# Altium integrated library Cypress PLD Ultra37000.IntLib: 166 symbols (part 9 of 12)
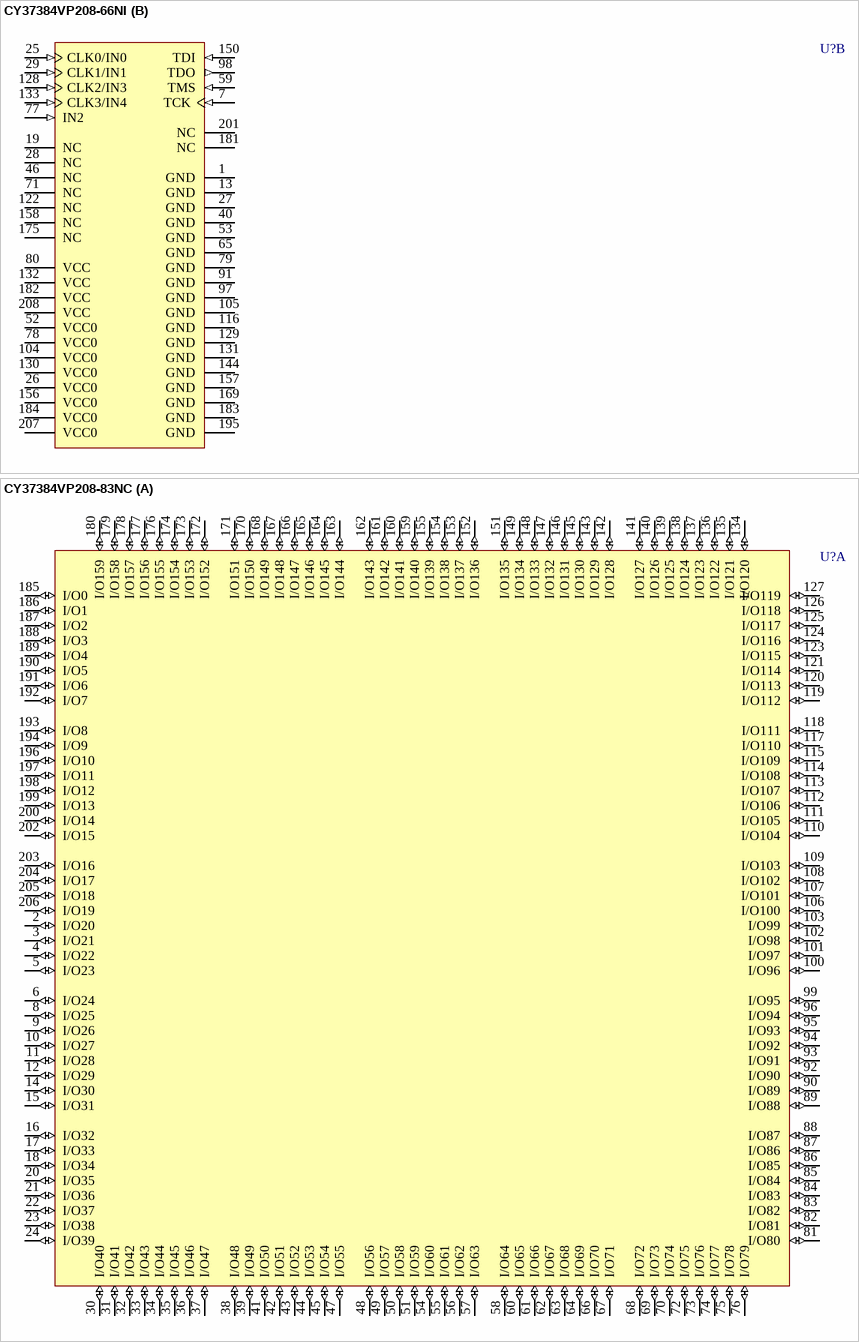
[diagram p98: symbols CY37384VP208-66NI to CY37384VP208-83NC]

## CY37384VP208-66NI
designator U?
Ultra37000 3.3V, ISR High-Performance CPLD; Published: 11-Dec-2002; LatestRevisionDate: 13-Apr-2006; LatestRevisionNote: IPC-7351 Footprint Added.; DatasheetVersion: 18-Apr-2001; PackageVersion: revB, Jun-1997; PackageReference: N208; Publisher: Altium Limited; PackageDescription: 208-Pin Plastic Shrink Quad Flat Pack 0.5 mm Pitch; ComponentLink1Description: Manufacturer Link; ComponentLink1URL: http://www.cypress.com/; ComponentLink2Description: Datasheet; ComponentLink2URL: http://www.cypress.com/portal/server.pt/gateway/PTARGS_0_2_1524_209_259_43/http%3B/sjapp20.mis.cypress.com%3B7001/publishedcontent/publish/design_resources/datasheets/contents/cy37032p_5.pdf
footprint N208_N (Shrink QFP, 208-Leads, Body 28x28mm, Pitch 0.5mm, IPC Medium Density)
footprint N208_L (Shrink QFP, 208-Leads, Body 28x28mm, Pitch 0.5mm, IPC High Density)
footprint N208_M (Shrink QFP, 208-Leads, Body 28x28mm, Pitch 0.5mm, IPC Low Density)
3D model CY37384VP208-N208 (208-Pin Plastic Shrink Quad Flat Pack 0.5 mm Pitch)
part A pins: 2 I/O20 (io), 3 I/O21 (io), 4 I/O22 (io), 5 I/O23 (io), 6 I/O24 (io), 8 I/O25 (io), 9 I/O26 (io), 10 I/O27 (io), 11 I/O28 (io), 12 I/O29 (io), 14 I/O30 (io), 15 I/O31 (io), 16 I/O32 (io), 17 I/O33 (io), 18 I/O34 (io), 20 I/O35 (io), 21 I/O36 (io), 22 I/O37 (io), 23 I/O38 (io), 24 I/O39 (io), 30 I/O40 (io), 31 I/O41 (io), 32 I/O42 (io), 33 I/O43 (io), 34 I/O44 (io), 35 I/O45 (io), 36 I/O46 (io), 37 I/O47 (io), 38 I/O48 (io), 39 I/O49 (io), 41 I/O50 (io), 42 I/O51 (io), 43 I/O52 (io), 44 I/O53 (io), 45 I/O54 (io), 47 I/O55 (io), 48 I/O56 (io), 49 I/O57 (io), 50 I/O58 (io), 51 I/O59 (io), 54 I/O60 (io), 55 I/O61 (io), 56 I/O62 (io), 57 I/O63 (io), 58 I/O64 (io), 60 I/O65 (io), 61 I/O66 (io), 62 I/O67 (io), 63 I/O68 (io), 64 I/O69 (io), 66 I/O70 (io), 67 I/O71 (io), 68 I/O72 (io), 69 I/O73 (io), 70 I/O74 (io), 72 I/O75 (io), 73 I/O76 (io), 74 I/O77 (io), 75 I/O78 (io), 76 I/O79 (io), 81 I/O80 (io), 82 I/O81 (io), 83 I/O82 (io), 84 I/O83 (io), 85 I/O84 (io), 86 I/O85 (io), 87 I/O86 (io), 88 I/O87 (io), 89 I/O88 (io), 90 I/O89 (io), 92 I/O90 (io), 93 I/O91 (io), 94 I/O92 (io), 95 I/O93 (io), 96 I/O94 (io), 99 I/O95 (io), 100 I/O96 (io), 101 I/O97 (io), 102 I/O98 (io), 103 I/O99 (io), 106 I/O100 (io), 107 I/O101 (io), 108 I/O102 (io), 109 I/O103 (io), 110 I/O104 (io), 111 I/O105 (io), 112 I/O106 (io), 113 I/O107 (io), 114 I/O108 (io), 115 I/O109 (io), 117 I/O110 (io), 118 I/O111 (io), 119 I/O112 (io), 120 I/O113 (io), 121 I/O114 (io), 123 I/O115 (io), 124 I/O116 (io), 125 I/O117 (io), 126 I/O118 (io), 127 I/O119 (io), 134 I/O120 (io), 135 I/O121 (io), 136 I/O122 (io), 137 I/O123 (io), 138 I/O124 (io), 139 I/O125 (io), 140 I/O126 (io), 141 I/O127 (io), 142 I/O128 (io), 143 I/O129 (io), 145 I/O130 (io), 146 I/O131 (io), 147 I/O132 (io), 148 I/O133 (io), 149 I/O134 (io), 151 I/O135 (io), 152 I/O136 (io), 153 I/O137 (io), 154 I/O138 (io), 155 I/O139 (io), 159 I/O140 (io), 160 I/O141 (io), 161 I/O142 (io), 162 I/O143 (io), 163 I/O144 (io), 164 I/O145 (io), 165 I/O146 (io), 166 I/O147 (io), 167 I/O148 (io), 168 I/O149 (io), 170 I/O150 (io), 171 I/O151 (io), 172 I/O152 (io), 173 I/O153 (io), 174 I/O154 (io), 176 I/O155 (io), 177 I/O156 (io), 178 I/O157 (io), 179 I/O158 (io), 180 I/O159 (io), 185 I/O0 (io), 186 I/O1 (io), 187 I/O2 (io), 188 I/O3 (io), 189 I/O4 (io), 190 I/O5 (io), 191 I/O6 (io), 192 I/O7 (io), 193 I/O8 (io), 194 I/O9 (io), 196 I/O10 (io), 197 I/O11 (io), 198 I/O12 (io), 199 I/O13 (io), 200 I/O14 (io), 202 I/O15 (io), 203 I/O16 (io), 204 I/O17 (io), 205 I/O18 (io), 206 I/O19 (io)
part B pins: 1 GND (power), 7 TCK (in), 13 GND (power), 19 NC, 25 CLK0/IN0 (in), 26 VCC0 (power), 27 GND (power), 28 NC, 29 CLK1/IN1 (in), 40 GND (power), 46 NC, 52 VCC0 (power), 53 GND (power), 59 TMS (in), 65 GND (power), 71 NC, 77 IN2 (in), 78 VCC0 (power), 79 GND (power), 80 VCC (power), 91 GND (power), 97 GND (power), 98 TDO (out), 104 VCC0 (power), 105 GND (power), 116 GND (power), 122 NC, 128 CLK2/IN3 (in), 129 GND (power), 130 VCC0 (power), 131 GND (power), 132 VCC (power), 133 CLK3/IN4 (in), 144 GND (power), 150 TDI (in), 156 VCC0 (power), 157 GND (power), 158 NC, 169 GND (power), 175 NC, 181 NC, 182 VCC (power), 183 GND (power), 184 VCC0 (power), 195 GND (power), 201 NC, 207 VCC0 (power), 208 VCC (power)

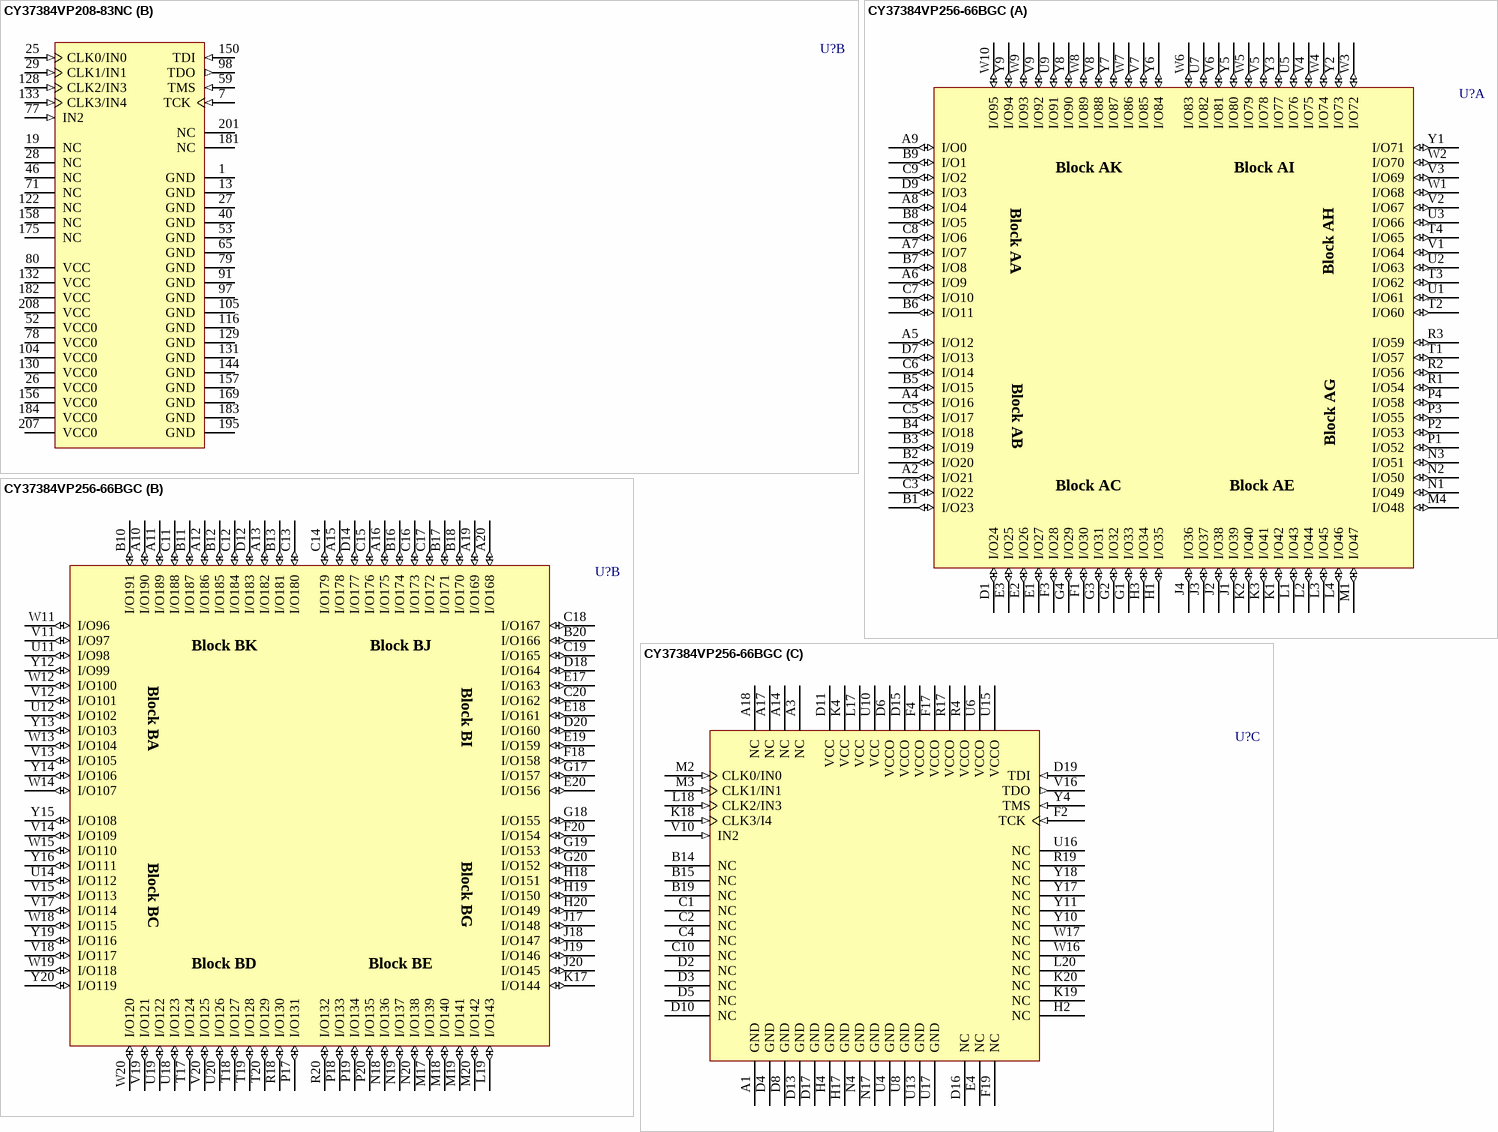
[diagram p52: symbols CY37384VP208-83NC to CY37384VP256-66BGC]

## CY37384VP208-83NC
designator U?
Ultra37000 3.3V, ISR High-Performance CPLD; Published: 11-Dec-2002; LatestRevisionDate: 13-Apr-2006; LatestRevisionNote: IPC-7351 Footprint Added.; DatasheetVersion: 18-Apr-2001; PackageVersion: revB, Jun-1997; PackageReference: N208; Publisher: Altium Limited; PackageDescription: 208-Pin Plastic Shrink Quad Flat Pack 0.5 mm Pitch; ComponentLink1Description: Manufacturer Link; ComponentLink1URL: http://www.cypress.com/; ComponentLink2Description: Datasheet; ComponentLink2URL: http://www.cypress.com/portal/server.pt/gateway/PTARGS_0_2_1524_209_259_43/http%3B/sjapp20.mis.cypress.com%3B7001/publishedcontent/publish/design_resources/datasheets/contents/cy37032p_5.pdf
footprint N208_N (Shrink QFP, 208-Leads, Body 28x28mm, Pitch 0.5mm, IPC Medium Density)
footprint N208_L (Shrink QFP, 208-Leads, Body 28x28mm, Pitch 0.5mm, IPC High Density)
footprint N208_M (Shrink QFP, 208-Leads, Body 28x28mm, Pitch 0.5mm, IPC Low Density)
3D model CY37384VP208-N208 (208-Pin Plastic Shrink Quad Flat Pack 0.5 mm Pitch)
part A pins: 2 I/O20 (io), 3 I/O21 (io), 4 I/O22 (io), 5 I/O23 (io), 6 I/O24 (io), 8 I/O25 (io), 9 I/O26 (io), 10 I/O27 (io), 11 I/O28 (io), 12 I/O29 (io), 14 I/O30 (io), 15 I/O31 (io), 16 I/O32 (io), 17 I/O33 (io), 18 I/O34 (io), 20 I/O35 (io), 21 I/O36 (io), 22 I/O37 (io), 23 I/O38 (io), 24 I/O39 (io), 30 I/O40 (io), 31 I/O41 (io), 32 I/O42 (io), 33 I/O43 (io), 34 I/O44 (io), 35 I/O45 (io), 36 I/O46 (io), 37 I/O47 (io), 38 I/O48 (io), 39 I/O49 (io), 41 I/O50 (io), 42 I/O51 (io), 43 I/O52 (io), 44 I/O53 (io), 45 I/O54 (io), 47 I/O55 (io), 48 I/O56 (io), 49 I/O57 (io), 50 I/O58 (io), 51 I/O59 (io), 54 I/O60 (io), 55 I/O61 (io), 56 I/O62 (io), 57 I/O63 (io), 58 I/O64 (io), 60 I/O65 (io), 61 I/O66 (io), 62 I/O67 (io), 63 I/O68 (io), 64 I/O69 (io), 66 I/O70 (io), 67 I/O71 (io), 68 I/O72 (io), 69 I/O73 (io), 70 I/O74 (io), 72 I/O75 (io), 73 I/O76 (io), 74 I/O77 (io), 75 I/O78 (io), 76 I/O79 (io), 81 I/O80 (io), 82 I/O81 (io), 83 I/O82 (io), 84 I/O83 (io), 85 I/O84 (io), 86 I/O85 (io), 87 I/O86 (io), 88 I/O87 (io), 89 I/O88 (io), 90 I/O89 (io), 92 I/O90 (io), 93 I/O91 (io), 94 I/O92 (io), 95 I/O93 (io), 96 I/O94 (io), 99 I/O95 (io), 100 I/O96 (io), 101 I/O97 (io), 102 I/O98 (io), 103 I/O99 (io), 106 I/O100 (io), 107 I/O101 (io), 108 I/O102 (io), 109 I/O103 (io), 110 I/O104 (io), 111 I/O105 (io), 112 I/O106 (io), 113 I/O107 (io), 114 I/O108 (io), 115 I/O109 (io), 117 I/O110 (io), 118 I/O111 (io), 119 I/O112 (io), 120 I/O113 (io), 121 I/O114 (io), 123 I/O115 (io), 124 I/O116 (io), 125 I/O117 (io), 126 I/O118 (io), 127 I/O119 (io), 134 I/O120 (io), 135 I/O121 (io), 136 I/O122 (io), 137 I/O123 (io), 138 I/O124 (io), 139 I/O125 (io), 140 I/O126 (io), 141 I/O127 (io), 142 I/O128 (io), 143 I/O129 (io), 145 I/O130 (io), 146 I/O131 (io), 147 I/O132 (io), 148 I/O133 (io), 149 I/O134 (io), 151 I/O135 (io), 152 I/O136 (io), 153 I/O137 (io), 154 I/O138 (io), 155 I/O139 (io), 159 I/O140 (io), 160 I/O141 (io), 161 I/O142 (io), 162 I/O143 (io), 163 I/O144 (io), 164 I/O145 (io), 165 I/O146 (io), 166 I/O147 (io), 167 I/O148 (io), 168 I/O149 (io), 170 I/O150 (io), 171 I/O151 (io), 172 I/O152 (io), 173 I/O153 (io), 174 I/O154 (io), 176 I/O155 (io), 177 I/O156 (io), 178 I/O157 (io), 179 I/O158 (io), 180 I/O159 (io), 185 I/O0 (io), 186 I/O1 (io), 187 I/O2 (io), 188 I/O3 (io), 189 I/O4 (io), 190 I/O5 (io), 191 I/O6 (io), 192 I/O7 (io), 193 I/O8 (io), 194 I/O9 (io), 196 I/O10 (io), 197 I/O11 (io), 198 I/O12 (io), 199 I/O13 (io), 200 I/O14 (io), 202 I/O15 (io), 203 I/O16 (io), 204 I/O17 (io), 205 I/O18 (io), 206 I/O19 (io)
part B pins: 1 GND (power), 7 TCK (in), 13 GND (power), 19 NC, 25 CLK0/IN0 (in), 26 VCC0 (power), 27 GND (power), 28 NC, 29 CLK1/IN1 (in), 40 GND (power), 46 NC, 52 VCC0 (power), 53 GND (power), 59 TMS (in), 65 GND (power), 71 NC, 77 IN2 (in), 78 VCC0 (power), 79 GND (power), 80 VCC (power), 91 GND (power), 97 GND (power), 98 TDO (out), 104 VCC0 (power), 105 GND (power), 116 GND (power), 122 NC, 128 CLK2/IN3 (in), 129 GND (power), 130 VCC0 (power), 131 GND (power), 132 VCC (power), 133 CLK3/IN4 (in), 144 GND (power), 150 TDI (in), 156 VCC0 (power), 157 GND (power), 158 NC, 169 GND (power), 175 NC, 181 NC, 182 VCC (power), 183 GND (power), 184 VCC0 (power), 195 GND (power), 201 NC, 207 VCC0 (power), 208 VCC (power)

## CY37384VP256-66BGC
designator U?
Ultra37000 3.3V, ISR High-Performance CPLD; Published: 11-Dec-2002; LatestRevisionDate: 13-Apr-2006; LatestRevisionNote: IPC-7351 Footprint Added.; DatasheetVersion: 18-Apr-2001; PackageVersion: Mar-2001; PackageReference: BG256; Publisher: Altium Limited; PackageDescription: 292-Ball Ball Grid Array 1.27 mm Pitch; ComponentLink1Description: Manufacturer Link; ComponentLink1URL: http://www.cypress.com/; ComponentLink2Description: Datasheet; ComponentLink2URL: http://www.cypress.com/portal/server.pt/gateway/PTARGS_0_2_1524_209_259_43/http%3B/sjapp20.mis.cypress.com%3B7001/publishedcontent/publish/design_resources/datasheets/contents/cy37032p_5.pdf
footprint BG256 (BGA, 292-Leads, Body 27x27mm, Pitch 1.27mm)
3D model CY37384VP256-BG256 (292-Ball Ball Grid Array 1.27 mm Pitch)
part A pins: A2 I/O21 (io), A4 I/O16 (io), A5 I/O12 (io), A6 I/O9 (io), A7 I/O7 (io), A8 I/O4 (io), A9 I/O0 (io), B1 I/O23 (io), B2 I/O20 (io), B3 I/O19 (io), B4 I/O18 (io), B5 I/O15 (io), B6 I/O11 (io), B7 I/O8 (io), B8 I/O5 (io), B9 I/O1 (io), C3 I/O22 (io), C5 I/O17 (io), C6 I/O14 (io), C7 I/O10 (io), C8 I/O6 (io), C9 I/O2 (io), D1 I/O24 (io), D7 I/O13 (io), D9 I/O3 (io), E1 I/O27 (io), E2 I/O26 (io), E3 I/O25 (io), F1 I/O30 (io), F3 I/O28 (io), G1 I/O33 (io), G2 I/O32 (io), G3 I/O31 (io), G4 I/O29 (io), H1 I/O35 (io), H3 I/O34 (io), J1 I/O39 (io), J2 I/O38 (io), J3 I/O37 (io), J4 I/O36 (io), K1 I/O42 (io), K2 I/O40 (io), K3 I/O41 (io), L1 I/O43 (io), L2 I/O44 (io), L3 I/O45 (io), L4 I/O46 (io), M1 I/O47 (io), M4 I/O48 (io), N1 I/O49 (io), N2 I/O50 (io), N3 I/O51 (io), P1 I/O52 (io), P2 I/O53 (io), P3 I/O55 (io), P4 I/O58 (io), R1 I/O54 (io), R2 I/O56 (io), R3 I/O59 (io), T1 I/O57 (io), T2 I/O60 (io), T3 I/O62 (io), T4 I/O65 (io), U1 I/O61 (io), U2 I/O63 (io), U3 I/O66 (io), U5 I/O76 (io), U7 I/O82 (io), U9 I/O91 (io), V1 I/O64 (io), V2 I/O67 (io), V3 I/O69 (io), V4 I/O75 (io), V5 I/O78 (io), V6 I/O81 (io), V7 I/O85 (io), V8 I/O88 (io), V9 I/O92 (io), W1 I/O68 (io), W2 I/O70 (io), W3 I/O72 (io), W4 I/O74 (io), W5 I/O79 (io), W6 I/O83 (io), W7 I/O86 (io), W8 I/O89 (io), W9 I/O93 (io), W10 I/O95 (io), Y1 I/O71 (io), Y2 I/O73 (io), Y3 I/O77 (io), Y5 I/O80 (io), Y6 I/O84 (io), Y7 I/O87 (io), Y8 I/O90 (io), Y9 I/O94 (io)
part B pins: A10 I/O190 (io), A11 I/O189 (io), A12 I/O186 (io), A13 I/O182 (io), A15 I/O178 (io), A16 I/O175 (io), A19 I/O169 (io), A20 I/O168 (io), B10 I/O191 (io), B11 I/O187 (io), B12 I/O185 (io), B13 I/O181 (io), B16 I/O174 (io), B17 I/O171 (io), B18 I/O170 (io), B20 I/O166 (io), C11 I/O188 (io), C12 I/O184 (io), C13 I/O180 (io), C14 I/O179 (io), C15 I/O176 (io), C16 I/O173 (io), C17 I/O172 (io), C18 I/O167 (io), C19 I/O165 (io), C20 I/O162 (io), D12 I/O183 (io), D14 I/O177 (io), D18 I/O164 (io), D20 I/O160 (io), E17 I/O163 (io), E18 I/O161 (io), E19 I/O159 (io), E20 I/O156 (io), F18 I/O158 (io), F20 I/O154 (io), G17 I/O157 (io), G18 I/O155 (io), G19 I/O153 (io), G20 I/O152 (io), H18 I/O151 (io), H19 I/O150 (io), H20 I/O149 (io), J17 I/O148 (io), J18 I/O147 (io), J19 I/O146 (io), J20 I/O145 (io), K17 I/O144 (io), L19 I/O143 (io), M17 I/O139 (io), M18 I/O140 (io), M19 I/O141 (io), M20 I/O142 (io), N18 I/O136 (io), N19 I/O137 (io), N20 I/O138 (io), P17 I/O131 (io), P18 I/O133 (io), P19 I/O134 (io), P20 I/O135 (io), R18 I/O130 (io), R20 I/O132 (io), T17 I/O124 (io), T18 I/O127 (io), T19 I/O128 (io), T20 I/O129 (io), U11 I/O98 (io), U12 I/O102 (io), U14 I/O112 (io), U18 I/O123 (io), U19 I/O122 (io), U20 I/O126 (io), V11 I/O97 (io), V12 I/O101 (io), V13 I/O105 (io), V14 I/O109 (io), V15 I/O113 (io), V17 I/O114 (io), V18 I/O117 (io), V19 I/O121 (io), V20 I/O125 (io), W11 I/O96 (io), W12 I/O100 (io), W13 I/O104 (io), W14 I/O107 (io), W15 I/O110 (io), W18 I/O115 (io), W19 I/O118 (io), W20 I/O120 (io), Y12 I/O99 (io), Y13 I/O103 (io), Y14 I/O106 (io), Y15 I/O108 (io), Y16 I/O111 (io), Y19 I/O116 (io), Y20 I/O119 (io)
part C pins: A1 GND (power), A3 NC, A14 NC, A17 NC, A18 NC, B14 NC, B15 NC, B19 NC, C1 NC, C2 NC, C4 NC, C10 NC, D2 NC, D3 NC, D4 GND (power), D5 NC, D6 VCCO (power), D8 GND (power), D10 NC, D11 VCC (power), D13 GND (power), D15 VCCO (power), D16 NC, D17 GND (power), D19 TDI (in), E4 NC, F2 TCK (in), F4 VCCO (power), F17 VCCO (power), F19 NC, H2 NC, H4 GND (power), H17 GND (power), K4 VCC (power), K18 CLK3/I4 (in), K19 NC, K20 NC, L17 VCC (power), L18 CLK2/IN3 (in), L20 NC, M2 CLK0/IN0 (in), M3 CLK1/IN1 (in), N4 GND (power), N17 GND (power), R4 VCCO (power), R17 VCCO (power), R19 NC, U4 GND (power), U6 VCCO (power), U8 GND (power), U10 VCC (power), U13 GND (power), U15 VCCO (power), U16 NC, U17 GND (power), V10 IN2 (in), V16 TDO (out), W16 NC, W17 NC, Y4 TMS (in), Y10 NC, Y11 NC, Y17 NC, Y18 NC
part A text: Block AK; Block AI; Block AA; Block AH; Block AB; Block AG; Block AC; Block AE
part B text: Block BK; Block BJ; Block BA; Block BI; Block BG; Block BC; Block BD; Block BE

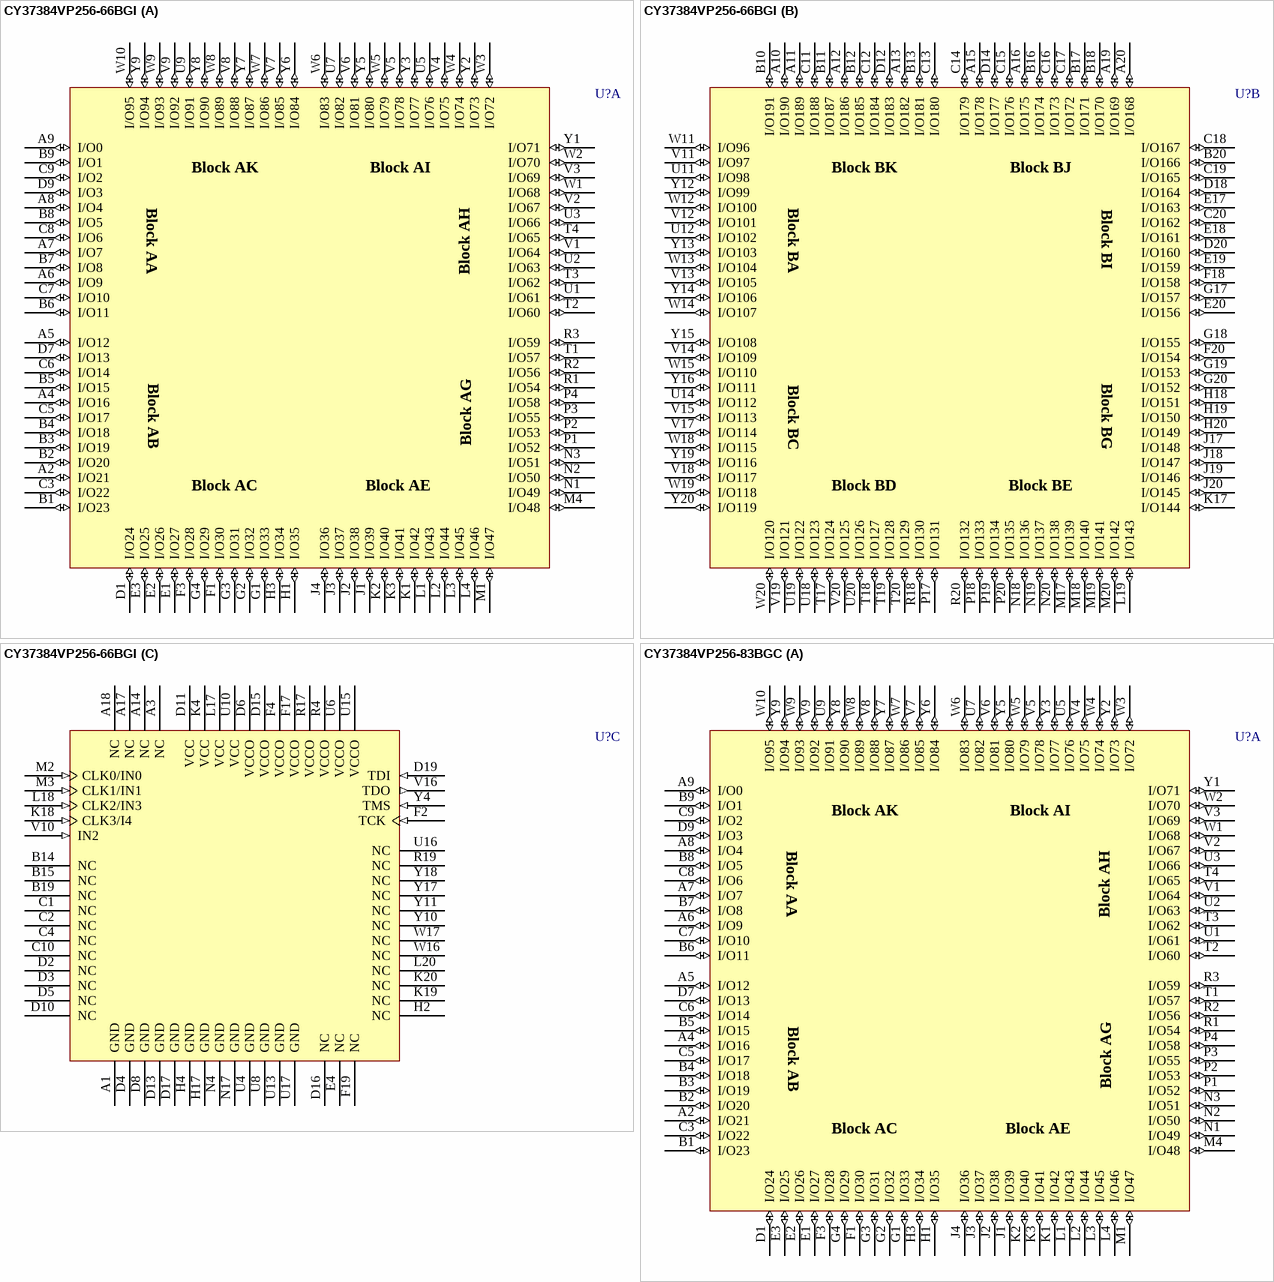
[diagram p53: symbols CY37384VP256-66BGI to CY37384VP256-83BGC]

## CY37384VP256-66BGI
designator U?
Ultra37000 3.3V, ISR High-Performance CPLD; Published: 11-Dec-2002; LatestRevisionDate: 13-Apr-2006; LatestRevisionNote: IPC-7351 Footprint Added.; DatasheetVersion: 18-Apr-2001; PackageVersion: Mar-2001; PackageReference: BG256; Publisher: Altium Limited; PackageDescription: 292-Ball Ball Grid Array 1.27 mm Pitch; ComponentLink1Description: Manufacturer Link; ComponentLink1URL: http://www.cypress.com/; ComponentLink2Description: Datasheet; ComponentLink2URL: http://www.cypress.com/portal/server.pt/gateway/PTARGS_0_2_1524_209_259_43/http%3B/sjapp20.mis.cypress.com%3B7001/publishedcontent/publish/design_resources/datasheets/contents/cy37032p_5.pdf
footprint BG256 (BGA, 292-Leads, Body 27x27mm, Pitch 1.27mm)
3D model CY37384VP256-BG256 (292-Ball Ball Grid Array 1.27 mm Pitch)
part A pins: A2 I/O21 (io), A4 I/O16 (io), A5 I/O12 (io), A6 I/O9 (io), A7 I/O7 (io), A8 I/O4 (io), A9 I/O0 (io), B1 I/O23 (io), B2 I/O20 (io), B3 I/O19 (io), B4 I/O18 (io), B5 I/O15 (io), B6 I/O11 (io), B7 I/O8 (io), B8 I/O5 (io), B9 I/O1 (io), C3 I/O22 (io), C5 I/O17 (io), C6 I/O14 (io), C7 I/O10 (io), C8 I/O6 (io), C9 I/O2 (io), D1 I/O24 (io), D7 I/O13 (io), D9 I/O3 (io), E1 I/O27 (io), E2 I/O26 (io), E3 I/O25 (io), F1 I/O30 (io), F3 I/O28 (io), G1 I/O33 (io), G2 I/O32 (io), G3 I/O31 (io), G4 I/O29 (io), H1 I/O35 (io), H3 I/O34 (io), J1 I/O39 (io), J2 I/O38 (io), J3 I/O37 (io), J4 I/O36 (io), K1 I/O42 (io), K2 I/O40 (io), K3 I/O41 (io), L1 I/O43 (io), L2 I/O44 (io), L3 I/O45 (io), L4 I/O46 (io), M1 I/O47 (io), M4 I/O48 (io), N1 I/O49 (io), N2 I/O50 (io), N3 I/O51 (io), P1 I/O52 (io), P2 I/O53 (io), P3 I/O55 (io), P4 I/O58 (io), R1 I/O54 (io), R2 I/O56 (io), R3 I/O59 (io), T1 I/O57 (io), T2 I/O60 (io), T3 I/O62 (io), T4 I/O65 (io), U1 I/O61 (io), U2 I/O63 (io), U3 I/O66 (io), U5 I/O76 (io), U7 I/O82 (io), U9 I/O91 (io), V1 I/O64 (io), V2 I/O67 (io), V3 I/O69 (io), V4 I/O75 (io), V5 I/O78 (io), V6 I/O81 (io), V7 I/O85 (io), V8 I/O88 (io), V9 I/O92 (io), W1 I/O68 (io), W2 I/O70 (io), W3 I/O72 (io), W4 I/O74 (io), W5 I/O79 (io), W6 I/O83 (io), W7 I/O86 (io), W8 I/O89 (io), W9 I/O93 (io), W10 I/O95 (io), Y1 I/O71 (io), Y2 I/O73 (io), Y3 I/O77 (io), Y5 I/O80 (io), Y6 I/O84 (io), Y7 I/O87 (io), Y8 I/O90 (io), Y9 I/O94 (io)
part B pins: A10 I/O190 (io), A11 I/O189 (io), A12 I/O186 (io), A13 I/O182 (io), A15 I/O178 (io), A16 I/O175 (io), A19 I/O169 (io), A20 I/O168 (io), B10 I/O191 (io), B11 I/O187 (io), B12 I/O185 (io), B13 I/O181 (io), B16 I/O174 (io), B17 I/O171 (io), B18 I/O170 (io), B20 I/O166 (io), C11 I/O188 (io), C12 I/O184 (io), C13 I/O180 (io), C14 I/O179 (io), C15 I/O176 (io), C16 I/O173 (io), C17 I/O172 (io), C18 I/O167 (io), C19 I/O165 (io), C20 I/O162 (io), D12 I/O183 (io), D14 I/O177 (io), D18 I/O164 (io), D20 I/O160 (io), E17 I/O163 (io), E18 I/O161 (io), E19 I/O159 (io), E20 I/O156 (io), F18 I/O158 (io), F20 I/O154 (io), G17 I/O157 (io), G18 I/O155 (io), G19 I/O153 (io), G20 I/O152 (io), H18 I/O151 (io), H19 I/O150 (io), H20 I/O149 (io), J17 I/O148 (io), J18 I/O147 (io), J19 I/O146 (io), J20 I/O145 (io), K17 I/O144 (io), L19 I/O143 (io), M17 I/O139 (io), M18 I/O140 (io), M19 I/O141 (io), M20 I/O142 (io), N18 I/O136 (io), N19 I/O137 (io), N20 I/O138 (io), P17 I/O131 (io), P18 I/O133 (io), P19 I/O134 (io), P20 I/O135 (io), R18 I/O130 (io), R20 I/O132 (io), T17 I/O124 (io), T18 I/O127 (io), T19 I/O128 (io), T20 I/O129 (io), U11 I/O98 (io), U12 I/O102 (io), U14 I/O112 (io), U18 I/O123 (io), U19 I/O122 (io), U20 I/O126 (io), V11 I/O97 (io), V12 I/O101 (io), V13 I/O105 (io), V14 I/O109 (io), V15 I/O113 (io), V17 I/O114 (io), V18 I/O117 (io), V19 I/O121 (io), V20 I/O125 (io), W11 I/O96 (io), W12 I/O100 (io), W13 I/O104 (io), W14 I/O107 (io), W15 I/O110 (io), W18 I/O115 (io), W19 I/O118 (io), W20 I/O120 (io), Y12 I/O99 (io), Y13 I/O103 (io), Y14 I/O106 (io), Y15 I/O108 (io), Y16 I/O111 (io), Y19 I/O116 (io), Y20 I/O119 (io)
part C pins: A1 GND (power), A3 NC, A14 NC, A17 NC, A18 NC, B14 NC, B15 NC, B19 NC, C1 NC, C2 NC, C4 NC, C10 NC, D2 NC, D3 NC, D4 GND (power), D5 NC, D6 VCCO (power), D8 GND (power), D10 NC, D11 VCC (power), D13 GND (power), D15 VCCO (power), D16 NC, D17 GND (power), D19 TDI (in), E4 NC, F2 TCK (in), F4 VCCO (power), F17 VCCO (power), F19 NC, H2 NC, H4 GND (power), H17 GND (power), K4 VCC (power), K18 CLK3/I4 (in), K19 NC, K20 NC, L17 VCC (power), L18 CLK2/IN3 (in), L20 NC, M2 CLK0/IN0 (in), M3 CLK1/IN1 (in), N4 GND (power), N17 GND (power), R4 VCCO (power), R17 VCCO (power), R19 NC, U4 GND (power), U6 VCCO (power), U8 GND (power), U10 VCC (power), U13 GND (power), U15 VCCO (power), U16 NC, U17 GND (power), V10 IN2 (in), V16 TDO (out), W16 NC, W17 NC, Y4 TMS (in), Y10 NC, Y11 NC, Y17 NC, Y18 NC
part A text: Block AK; Block AI; Block AA; Block AH; Block AB; Block AG; Block AC; Block AE
part B text: Block BK; Block BJ; Block BA; Block BI; Block BG; Block BC; Block BD; Block BE

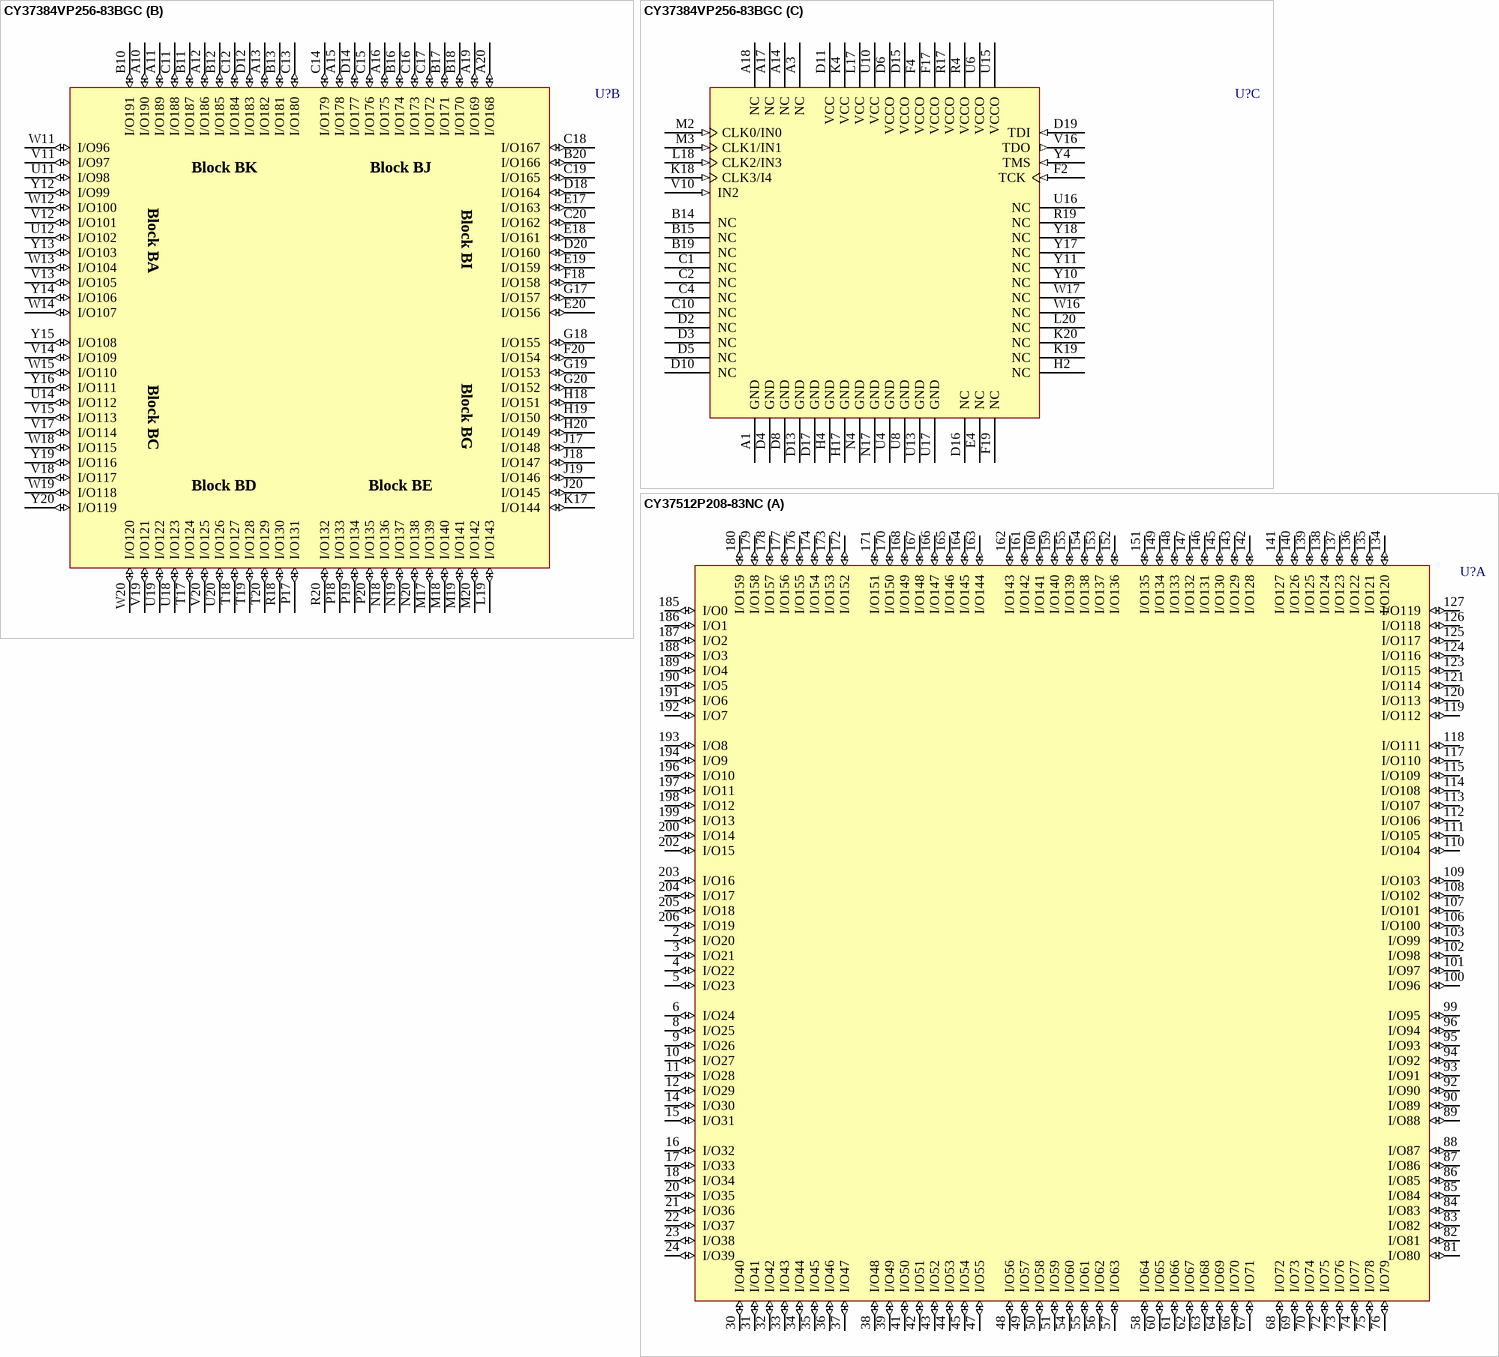
[diagram p54: symbols CY37384VP256-83BGC to CY37512P208-83NC]

## CY37384VP256-83BGC
designator U?
Ultra37000 3.3V, ISR High-Performance CPLD; Published: 11-Dec-2002; LatestRevisionDate: 13-Apr-2006; LatestRevisionNote: IPC-7351 Footprint Added.; DatasheetVersion: 18-Apr-2001; PackageVersion: Mar-2001; PackageReference: BG256; Publisher: Altium Limited; PackageDescription: 292-Ball Ball Grid Array 1.27 mm Pitch; ComponentLink1Description: Manufacturer Link; ComponentLink1URL: http://www.cypress.com/; ComponentLink2Description: Datasheet; ComponentLink2URL: http://www.cypress.com/portal/server.pt/gateway/PTARGS_0_2_1524_209_259_43/http%3B/sjapp20.mis.cypress.com%3B7001/publishedcontent/publish/design_resources/datasheets/contents/cy37032p_5.pdf
footprint BG256 (BGA, 292-Leads, Body 27x27mm, Pitch 1.27mm)
3D model CY37384VP256-BG256 (292-Ball Ball Grid Array 1.27 mm Pitch)
part A pins: A2 I/O21 (io), A4 I/O16 (io), A5 I/O12 (io), A6 I/O9 (io), A7 I/O7 (io), A8 I/O4 (io), A9 I/O0 (io), B1 I/O23 (io), B2 I/O20 (io), B3 I/O19 (io), B4 I/O18 (io), B5 I/O15 (io), B6 I/O11 (io), B7 I/O8 (io), B8 I/O5 (io), B9 I/O1 (io), C3 I/O22 (io), C5 I/O17 (io), C6 I/O14 (io), C7 I/O10 (io), C8 I/O6 (io), C9 I/O2 (io), D1 I/O24 (io), D7 I/O13 (io), D9 I/O3 (io), E1 I/O27 (io), E2 I/O26 (io), E3 I/O25 (io), F1 I/O30 (io), F3 I/O28 (io), G1 I/O33 (io), G2 I/O32 (io), G3 I/O31 (io), G4 I/O29 (io), H1 I/O35 (io), H3 I/O34 (io), J1 I/O39 (io), J2 I/O38 (io), J3 I/O37 (io), J4 I/O36 (io), K1 I/O42 (io), K2 I/O40 (io), K3 I/O41 (io), L1 I/O43 (io), L2 I/O44 (io), L3 I/O45 (io), L4 I/O46 (io), M1 I/O47 (io), M4 I/O48 (io), N1 I/O49 (io), N2 I/O50 (io), N3 I/O51 (io), P1 I/O52 (io), P2 I/O53 (io), P3 I/O55 (io), P4 I/O58 (io), R1 I/O54 (io), R2 I/O56 (io), R3 I/O59 (io), T1 I/O57 (io), T2 I/O60 (io), T3 I/O62 (io), T4 I/O65 (io), U1 I/O61 (io), U2 I/O63 (io), U3 I/O66 (io), U5 I/O76 (io), U7 I/O82 (io), U9 I/O91 (io), V1 I/O64 (io), V2 I/O67 (io), V3 I/O69 (io), V4 I/O75 (io), V5 I/O78 (io), V6 I/O81 (io), V7 I/O85 (io), V8 I/O88 (io), V9 I/O92 (io), W1 I/O68 (io), W2 I/O70 (io), W3 I/O72 (io), W4 I/O74 (io), W5 I/O79 (io), W6 I/O83 (io), W7 I/O86 (io), W8 I/O89 (io), W9 I/O93 (io), W10 I/O95 (io), Y1 I/O71 (io), Y2 I/O73 (io), Y3 I/O77 (io), Y5 I/O80 (io), Y6 I/O84 (io), Y7 I/O87 (io), Y8 I/O90 (io), Y9 I/O94 (io)
part B pins: A10 I/O190 (io), A11 I/O189 (io), A12 I/O186 (io), A13 I/O182 (io), A15 I/O178 (io), A16 I/O175 (io), A19 I/O169 (io), A20 I/O168 (io), B10 I/O191 (io), B11 I/O187 (io), B12 I/O185 (io), B13 I/O181 (io), B16 I/O174 (io), B17 I/O171 (io), B18 I/O170 (io), B20 I/O166 (io), C11 I/O188 (io), C12 I/O184 (io), C13 I/O180 (io), C14 I/O179 (io), C15 I/O176 (io), C16 I/O173 (io), C17 I/O172 (io), C18 I/O167 (io), C19 I/O165 (io), C20 I/O162 (io), D12 I/O183 (io), D14 I/O177 (io), D18 I/O164 (io), D20 I/O160 (io), E17 I/O163 (io), E18 I/O161 (io), E19 I/O159 (io), E20 I/O156 (io), F18 I/O158 (io), F20 I/O154 (io), G17 I/O157 (io), G18 I/O155 (io), G19 I/O153 (io), G20 I/O152 (io), H18 I/O151 (io), H19 I/O150 (io), H20 I/O149 (io), J17 I/O148 (io), J18 I/O147 (io), J19 I/O146 (io), J20 I/O145 (io), K17 I/O144 (io), L19 I/O143 (io), M17 I/O139 (io), M18 I/O140 (io), M19 I/O141 (io), M20 I/O142 (io), N18 I/O136 (io), N19 I/O137 (io), N20 I/O138 (io), P17 I/O131 (io), P18 I/O133 (io), P19 I/O134 (io), P20 I/O135 (io), R18 I/O130 (io), R20 I/O132 (io), T17 I/O124 (io), T18 I/O127 (io), T19 I/O128 (io), T20 I/O129 (io), U11 I/O98 (io), U12 I/O102 (io), U14 I/O112 (io), U18 I/O123 (io), U19 I/O122 (io), U20 I/O126 (io), V11 I/O97 (io), V12 I/O101 (io), V13 I/O105 (io), V14 I/O109 (io), V15 I/O113 (io), V17 I/O114 (io), V18 I/O117 (io), V19 I/O121 (io), V20 I/O125 (io), W11 I/O96 (io), W12 I/O100 (io), W13 I/O104 (io), W14 I/O107 (io), W15 I/O110 (io), W18 I/O115 (io), W19 I/O118 (io), W20 I/O120 (io), Y12 I/O99 (io), Y13 I/O103 (io), Y14 I/O106 (io), Y15 I/O108 (io), Y16 I/O111 (io), Y19 I/O116 (io), Y20 I/O119 (io)
part C pins: A1 GND (power), A3 NC, A14 NC, A17 NC, A18 NC, B14 NC, B15 NC, B19 NC, C1 NC, C2 NC, C4 NC, C10 NC, D2 NC, D3 NC, D4 GND (power), D5 NC, D6 VCCO (power), D8 GND (power), D10 NC, D11 VCC (power), D13 GND (power), D15 VCCO (power), D16 NC, D17 GND (power), D19 TDI (in), E4 NC, F2 TCK (in), F4 VCCO (power), F17 VCCO (power), F19 NC, H2 NC, H4 GND (power), H17 GND (power), K4 VCC (power), K18 CLK3/I4 (in), K19 NC, K20 NC, L17 VCC (power), L18 CLK2/IN3 (in), L20 NC, M2 CLK0/IN0 (in), M3 CLK1/IN1 (in), N4 GND (power), N17 GND (power), R4 VCCO (power), R17 VCCO (power), R19 NC, U4 GND (power), U6 VCCO (power), U8 GND (power), U10 VCC (power), U13 GND (power), U15 VCCO (power), U16 NC, U17 GND (power), V10 IN2 (in), V16 TDO (out), W16 NC, W17 NC, Y4 TMS (in), Y10 NC, Y11 NC, Y17 NC, Y18 NC
part A text: Block AK; Block AI; Block AA; Block AH; Block AB; Block AG; Block AC; Block AE
part B text: Block BK; Block BJ; Block BA; Block BI; Block BG; Block BC; Block BD; Block BE

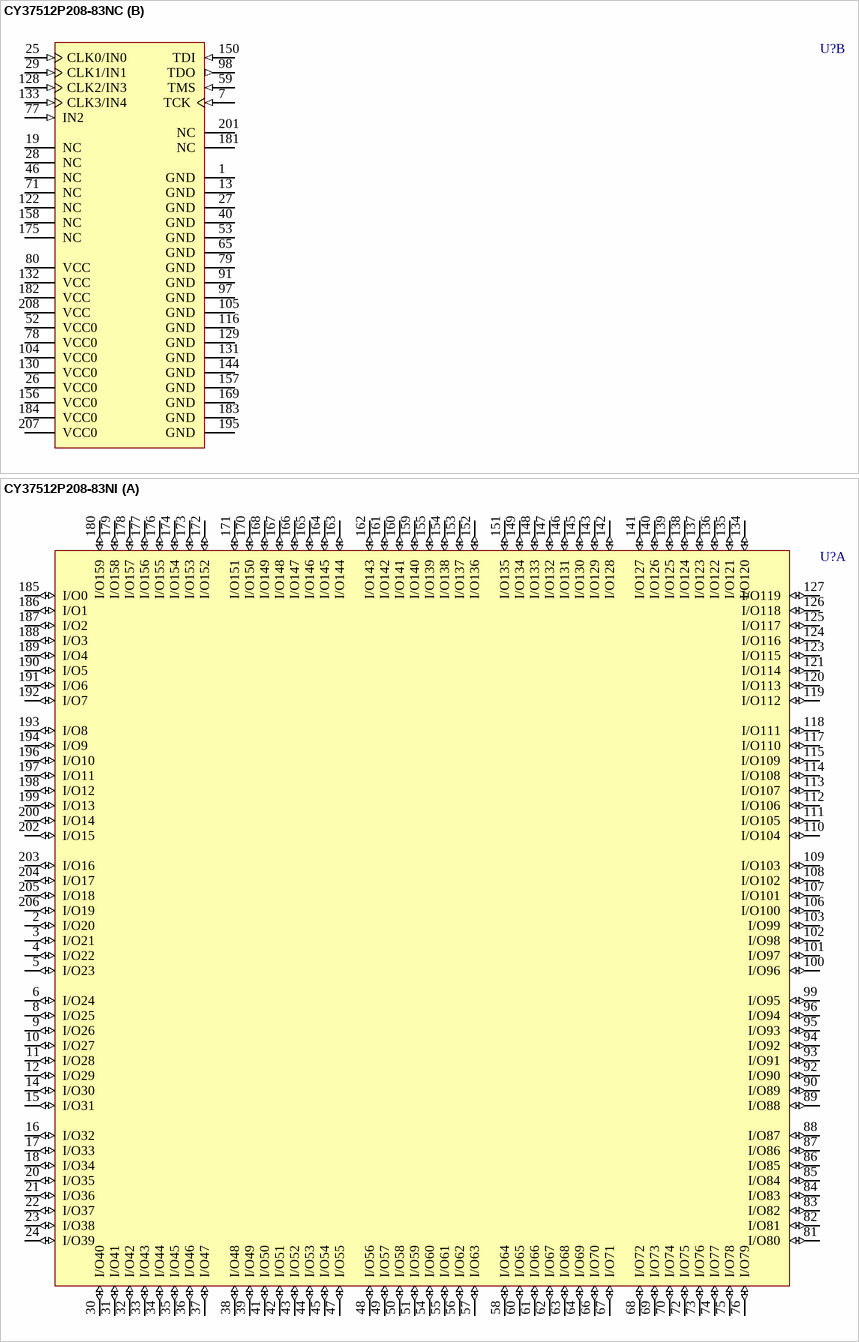
[diagram p55: symbols CY37512P208-83NC to CY37512P208-83NI]

## CY37512P208-83NC
designator U?
Ultra37000 5V, ISR High-Performance CPLD; Published: 11-Dec-2002; LatestRevisionDate: 13-Apr-2006; LatestRevisionNote: IPC-7351 Footprint Added.; DatasheetVersion: 18-Apr-2001; PackageVersion: revB, Jun-1997; PackageReference: N208; Publisher: Altium Limited; PackageDescription: 208-Pin Plastic Shrink Quad Flat Pack 0.5 mm Pitch; ComponentLink1Description: Manufacturer Link; ComponentLink1URL: http://www.cypress.com/; ComponentLink2Description: Datasheet; ComponentLink2URL: http://www.cypress.com/portal/server.pt/gateway/PTARGS_0_2_1524_209_259_43/http%3B/sjapp20.mis.cypress.com%3B7001/publishedcontent/publish/design_resources/datasheets/contents/cy37032p_5.pdf
footprint N208_N (Shrink QFP, 208-Leads, Body 28x28mm, Pitch 0.5mm, IPC Medium Density)
footprint N208_L (Shrink QFP, 208-Leads, Body 28x28mm, Pitch 0.5mm, IPC High Density)
footprint N208_M (Shrink QFP, 208-Leads, Body 28x28mm, Pitch 0.5mm, IPC Low Density)
3D model CY37512P208-N208 (208-Pin Plastic Shrink Quad Flat Pack 0.5 mm Pitch)
part A pins: 2 I/O20 (io), 3 I/O21 (io), 4 I/O22 (io), 5 I/O23 (io), 6 I/O24 (io), 8 I/O25 (io), 9 I/O26 (io), 10 I/O27 (io), 11 I/O28 (io), 12 I/O29 (io), 14 I/O30 (io), 15 I/O31 (io), 16 I/O32 (io), 17 I/O33 (io), 18 I/O34 (io), 20 I/O35 (io), 21 I/O36 (io), 22 I/O37 (io), 23 I/O38 (io), 24 I/O39 (io), 30 I/O40 (io), 31 I/O41 (io), 32 I/O42 (io), 33 I/O43 (io), 34 I/O44 (io), 35 I/O45 (io), 36 I/O46 (io), 37 I/O47 (io), 38 I/O48 (io), 39 I/O49 (io), 41 I/O50 (io), 42 I/O51 (io), 43 I/O52 (io), 44 I/O53 (io), 45 I/O54 (io), 47 I/O55 (io), 48 I/O56 (io), 49 I/O57 (io), 50 I/O58 (io), 51 I/O59 (io), 54 I/O60 (io), 55 I/O61 (io), 56 I/O62 (io), 57 I/O63 (io), 58 I/O64 (io), 60 I/O65 (io), 61 I/O66 (io), 62 I/O67 (io), 63 I/O68 (io), 64 I/O69 (io), 66 I/O70 (io), 67 I/O71 (io), 68 I/O72 (io), 69 I/O73 (io), 70 I/O74 (io), 72 I/O75 (io), 73 I/O76 (io), 74 I/O77 (io), 75 I/O78 (io), 76 I/O79 (io), 81 I/O80 (io), 82 I/O81 (io), 83 I/O82 (io), 84 I/O83 (io), 85 I/O84 (io), 86 I/O85 (io), 87 I/O86 (io), 88 I/O87 (io), 89 I/O88 (io), 90 I/O89 (io), 92 I/O90 (io), 93 I/O91 (io), 94 I/O92 (io), 95 I/O93 (io), 96 I/O94 (io), 99 I/O95 (io), 100 I/O96 (io), 101 I/O97 (io), 102 I/O98 (io), 103 I/O99 (io), 106 I/O100 (io), 107 I/O101 (io), 108 I/O102 (io), 109 I/O103 (io), 110 I/O104 (io), 111 I/O105 (io), 112 I/O106 (io), 113 I/O107 (io), 114 I/O108 (io), 115 I/O109 (io), 117 I/O110 (io), 118 I/O111 (io), 119 I/O112 (io), 120 I/O113 (io), 121 I/O114 (io), 123 I/O115 (io), 124 I/O116 (io), 125 I/O117 (io), 126 I/O118 (io), 127 I/O119 (io), 134 I/O120 (io), 135 I/O121 (io), 136 I/O122 (io), 137 I/O123 (io), 138 I/O124 (io), 139 I/O125 (io), 140 I/O126 (io), 141 I/O127 (io), 142 I/O128 (io), 143 I/O129 (io), 145 I/O130 (io), 146 I/O131 (io), 147 I/O132 (io), 148 I/O133 (io), 149 I/O134 (io), 151 I/O135 (io), 152 I/O136 (io), 153 I/O137 (io), 154 I/O138 (io), 155 I/O139 (io), 159 I/O140 (io), 160 I/O141 (io), 161 I/O142 (io), 162 I/O143 (io), 163 I/O144 (io), 164 I/O145 (io), 165 I/O146 (io), 166 I/O147 (io), 167 I/O148 (io), 168 I/O149 (io), 170 I/O150 (io), 171 I/O151 (io), 172 I/O152 (io), 173 I/O153 (io), 174 I/O154 (io), 176 I/O155 (io), 177 I/O156 (io), 178 I/O157 (io), 179 I/O158 (io), 180 I/O159 (io), 185 I/O0 (io), 186 I/O1 (io), 187 I/O2 (io), 188 I/O3 (io), 189 I/O4 (io), 190 I/O5 (io), 191 I/O6 (io), 192 I/O7 (io), 193 I/O8 (io), 194 I/O9 (io), 196 I/O10 (io), 197 I/O11 (io), 198 I/O12 (io), 199 I/O13 (io), 200 I/O14 (io), 202 I/O15 (io), 203 I/O16 (io), 204 I/O17 (io), 205 I/O18 (io), 206 I/O19 (io)
part B pins: 1 GND (power), 7 TCK (in), 13 GND (power), 19 NC, 25 CLK0/IN0 (in), 26 VCC0 (power), 27 GND (power), 28 NC, 29 CLK1/IN1 (in), 40 GND (power), 46 NC, 52 VCC0 (power), 53 GND (power), 59 TMS (in), 65 GND (power), 71 NC, 77 IN2 (in), 78 VCC0 (power), 79 GND (power), 80 VCC (power), 91 GND (power), 97 GND (power), 98 TDO (out), 104 VCC0 (power), 105 GND (power), 116 GND (power), 122 NC, 128 CLK2/IN3 (in), 129 GND (power), 130 VCC0 (power), 131 GND (power), 132 VCC (power), 133 CLK3/IN4 (in), 144 GND (power), 150 TDI (in), 156 VCC0 (power), 157 GND (power), 158 NC, 169 GND (power), 175 NC, 181 NC, 182 VCC (power), 183 GND (power), 184 VCC0 (power), 195 GND (power), 201 NC, 207 VCC0 (power), 208 VCC (power)

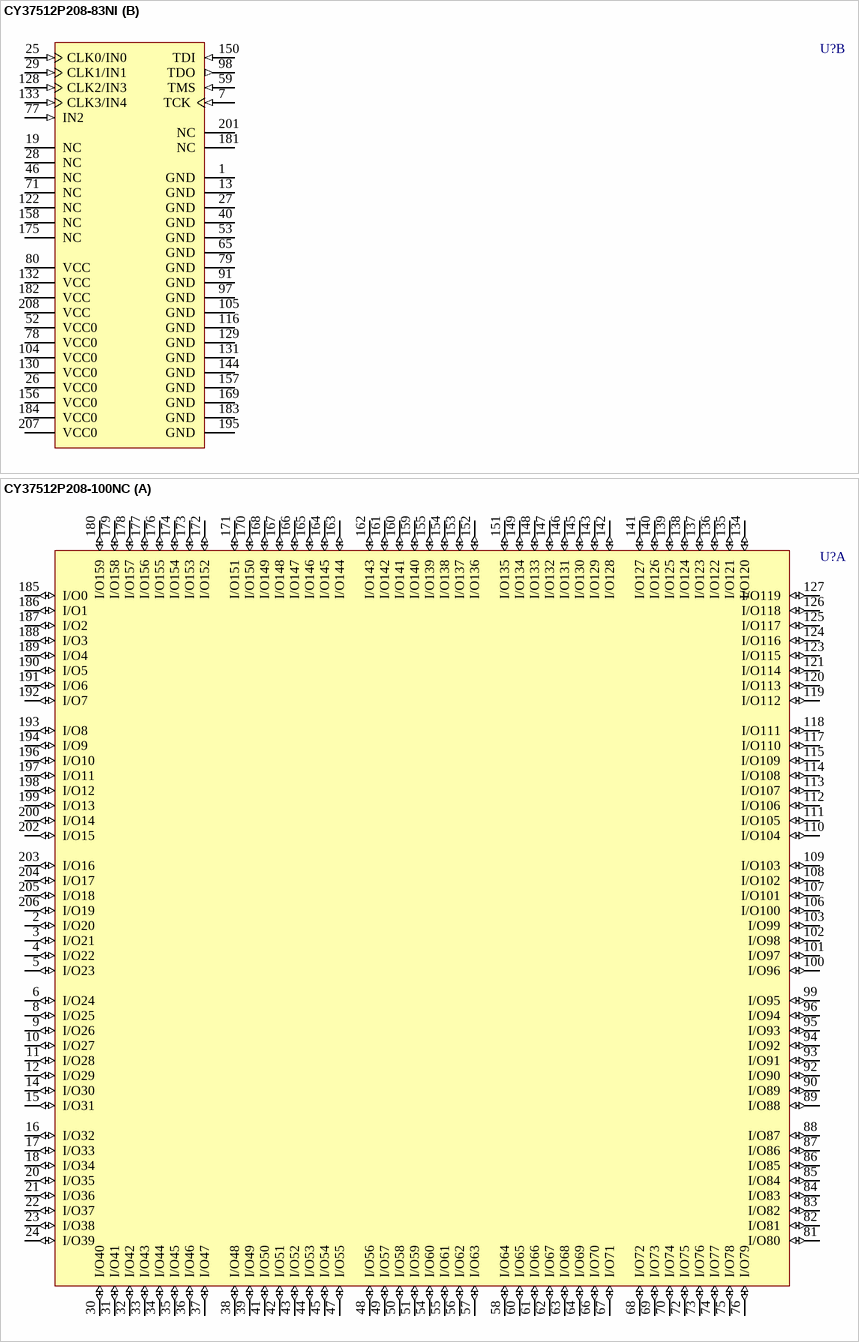
[diagram p56: symbols CY37512P208-83NI to CY37512P208-100NC]

## CY37512P208-83NI
designator U?
Ultra37000 5V, ISR High-Performance CPLD; Published: 11-Dec-2002; LatestRevisionDate: 13-Apr-2006; LatestRevisionNote: IPC-7351 Footprint Added.; DatasheetVersion: 18-Apr-2001; PackageVersion: revB, Jun-1997; PackageReference: N208; Publisher: Altium Limited; PackageDescription: 208-Pin Plastic Shrink Quad Flat Pack 0.5 mm Pitch; ComponentLink1Description: Manufacturer Link; ComponentLink1URL: http://www.cypress.com/; ComponentLink2Description: Datasheet; ComponentLink2URL: http://www.cypress.com/portal/server.pt/gateway/PTARGS_0_2_1524_209_259_43/http%3B/sjapp20.mis.cypress.com%3B7001/publishedcontent/publish/design_resources/datasheets/contents/cy37032p_5.pdf
footprint N208_N (Shrink QFP, 208-Leads, Body 28x28mm, Pitch 0.5mm, IPC Medium Density)
footprint N208_L (Shrink QFP, 208-Leads, Body 28x28mm, Pitch 0.5mm, IPC High Density)
footprint N208_M (Shrink QFP, 208-Leads, Body 28x28mm, Pitch 0.5mm, IPC Low Density)
3D model CY37512P208-N208 (208-Pin Plastic Shrink Quad Flat Pack 0.5 mm Pitch)
part A pins: 2 I/O20 (io), 3 I/O21 (io), 4 I/O22 (io), 5 I/O23 (io), 6 I/O24 (io), 8 I/O25 (io), 9 I/O26 (io), 10 I/O27 (io), 11 I/O28 (io), 12 I/O29 (io), 14 I/O30 (io), 15 I/O31 (io), 16 I/O32 (io), 17 I/O33 (io), 18 I/O34 (io), 20 I/O35 (io), 21 I/O36 (io), 22 I/O37 (io), 23 I/O38 (io), 24 I/O39 (io), 30 I/O40 (io), 31 I/O41 (io), 32 I/O42 (io), 33 I/O43 (io), 34 I/O44 (io), 35 I/O45 (io), 36 I/O46 (io), 37 I/O47 (io), 38 I/O48 (io), 39 I/O49 (io), 41 I/O50 (io), 42 I/O51 (io), 43 I/O52 (io), 44 I/O53 (io), 45 I/O54 (io), 47 I/O55 (io), 48 I/O56 (io), 49 I/O57 (io), 50 I/O58 (io), 51 I/O59 (io), 54 I/O60 (io), 55 I/O61 (io), 56 I/O62 (io), 57 I/O63 (io), 58 I/O64 (io), 60 I/O65 (io), 61 I/O66 (io), 62 I/O67 (io), 63 I/O68 (io), 64 I/O69 (io), 66 I/O70 (io), 67 I/O71 (io), 68 I/O72 (io), 69 I/O73 (io), 70 I/O74 (io), 72 I/O75 (io), 73 I/O76 (io), 74 I/O77 (io), 75 I/O78 (io), 76 I/O79 (io), 81 I/O80 (io), 82 I/O81 (io), 83 I/O82 (io), 84 I/O83 (io), 85 I/O84 (io), 86 I/O85 (io), 87 I/O86 (io), 88 I/O87 (io), 89 I/O88 (io), 90 I/O89 (io), 92 I/O90 (io), 93 I/O91 (io), 94 I/O92 (io), 95 I/O93 (io), 96 I/O94 (io), 99 I/O95 (io), 100 I/O96 (io), 101 I/O97 (io), 102 I/O98 (io), 103 I/O99 (io), 106 I/O100 (io), 107 I/O101 (io), 108 I/O102 (io), 109 I/O103 (io), 110 I/O104 (io), 111 I/O105 (io), 112 I/O106 (io), 113 I/O107 (io), 114 I/O108 (io), 115 I/O109 (io), 117 I/O110 (io), 118 I/O111 (io), 119 I/O112 (io), 120 I/O113 (io), 121 I/O114 (io), 123 I/O115 (io), 124 I/O116 (io), 125 I/O117 (io), 126 I/O118 (io), 127 I/O119 (io), 134 I/O120 (io), 135 I/O121 (io), 136 I/O122 (io), 137 I/O123 (io), 138 I/O124 (io), 139 I/O125 (io), 140 I/O126 (io), 141 I/O127 (io), 142 I/O128 (io), 143 I/O129 (io), 145 I/O130 (io), 146 I/O131 (io), 147 I/O132 (io), 148 I/O133 (io), 149 I/O134 (io), 151 I/O135 (io), 152 I/O136 (io), 153 I/O137 (io), 154 I/O138 (io), 155 I/O139 (io), 159 I/O140 (io), 160 I/O141 (io), 161 I/O142 (io), 162 I/O143 (io), 163 I/O144 (io), 164 I/O145 (io), 165 I/O146 (io), 166 I/O147 (io), 167 I/O148 (io), 168 I/O149 (io), 170 I/O150 (io), 171 I/O151 (io), 172 I/O152 (io), 173 I/O153 (io), 174 I/O154 (io), 176 I/O155 (io), 177 I/O156 (io), 178 I/O157 (io), 179 I/O158 (io), 180 I/O159 (io), 185 I/O0 (io), 186 I/O1 (io), 187 I/O2 (io), 188 I/O3 (io), 189 I/O4 (io), 190 I/O5 (io), 191 I/O6 (io), 192 I/O7 (io), 193 I/O8 (io), 194 I/O9 (io), 196 I/O10 (io), 197 I/O11 (io), 198 I/O12 (io), 199 I/O13 (io), 200 I/O14 (io), 202 I/O15 (io), 203 I/O16 (io), 204 I/O17 (io), 205 I/O18 (io), 206 I/O19 (io)
part B pins: 1 GND (power), 7 TCK (in), 13 GND (power), 19 NC, 25 CLK0/IN0 (in), 26 VCC0 (power), 27 GND (power), 28 NC, 29 CLK1/IN1 (in), 40 GND (power), 46 NC, 52 VCC0 (power), 53 GND (power), 59 TMS (in), 65 GND (power), 71 NC, 77 IN2 (in), 78 VCC0 (power), 79 GND (power), 80 VCC (power), 91 GND (power), 97 GND (power), 98 TDO (out), 104 VCC0 (power), 105 GND (power), 116 GND (power), 122 NC, 128 CLK2/IN3 (in), 129 GND (power), 130 VCC0 (power), 131 GND (power), 132 VCC (power), 133 CLK3/IN4 (in), 144 GND (power), 150 TDI (in), 156 VCC0 (power), 157 GND (power), 158 NC, 169 GND (power), 175 NC, 181 NC, 182 VCC (power), 183 GND (power), 184 VCC0 (power), 195 GND (power), 201 NC, 207 VCC0 (power), 208 VCC (power)

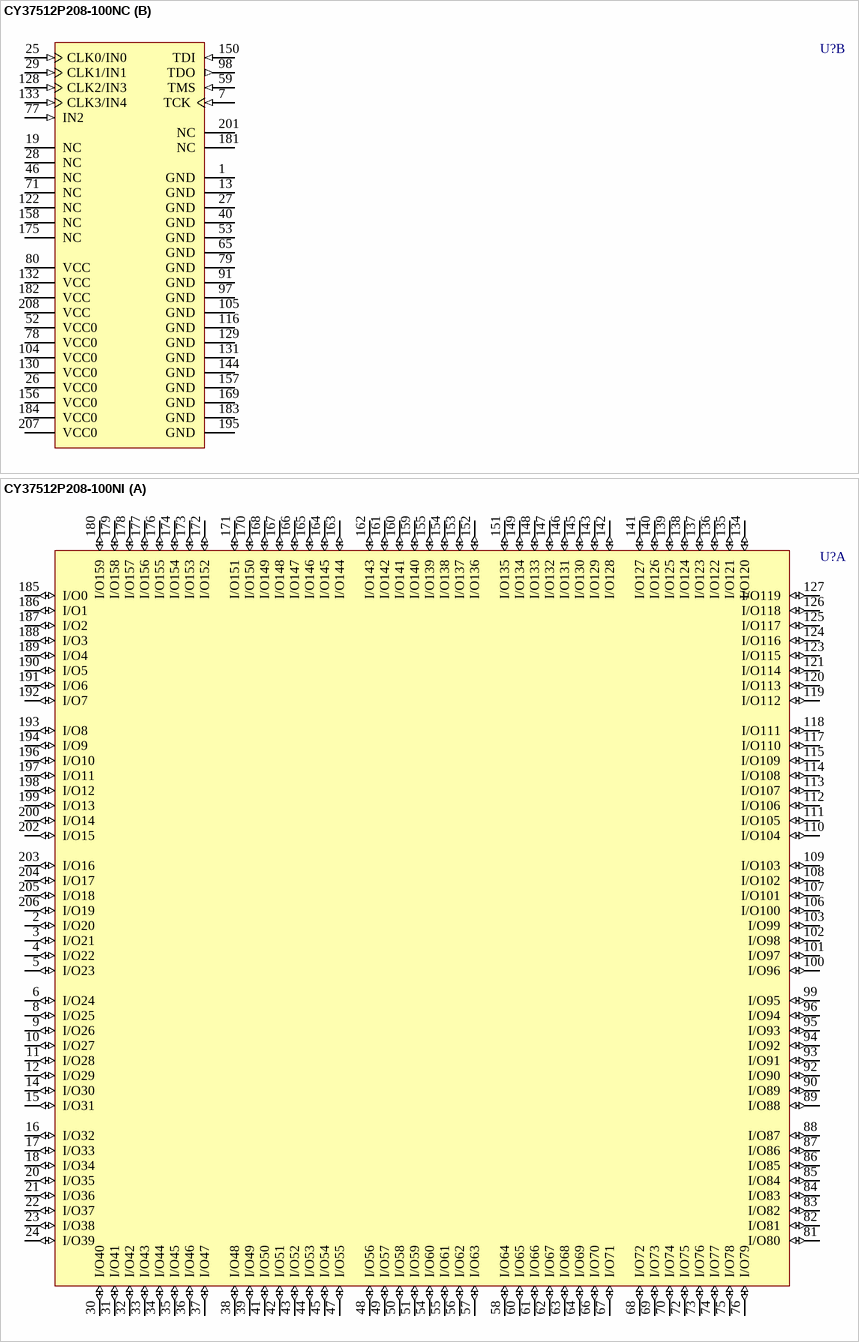
[diagram p57: symbols CY37512P208-100NC to CY37512P208-100NI]

## CY37512P208-100NC
designator U?
Ultra37000 5V, ISR High-Performance CPLD; Published: 11-Dec-2002; LatestRevisionDate: 13-Apr-2006; LatestRevisionNote: IPC-7351 Footprint Added.; DatasheetVersion: 18-Apr-2001; PackageVersion: revB, Jun-1997; PackageReference: N208; Publisher: Altium Limited; PackageDescription: 208-Pin Plastic Shrink Quad Flat Pack 0.5 mm Pitch; ComponentLink1Description: Manufacturer Link; ComponentLink1URL: http://www.cypress.com/; ComponentLink2Description: Datasheet; ComponentLink2URL: http://www.cypress.com/portal/server.pt/gateway/PTARGS_0_2_1524_209_259_43/http%3B/sjapp20.mis.cypress.com%3B7001/publishedcontent/publish/design_resources/datasheets/contents/cy37032p_5.pdf
footprint N208_N (Shrink QFP, 208-Leads, Body 28x28mm, Pitch 0.5mm, IPC Medium Density)
footprint N208_L (Shrink QFP, 208-Leads, Body 28x28mm, Pitch 0.5mm, IPC High Density)
footprint N208_M (Shrink QFP, 208-Leads, Body 28x28mm, Pitch 0.5mm, IPC Low Density)
3D model CY37512P208-N208 (208-Pin Plastic Shrink Quad Flat Pack 0.5 mm Pitch)
part A pins: 2 I/O20 (io), 3 I/O21 (io), 4 I/O22 (io), 5 I/O23 (io), 6 I/O24 (io), 8 I/O25 (io), 9 I/O26 (io), 10 I/O27 (io), 11 I/O28 (io), 12 I/O29 (io), 14 I/O30 (io), 15 I/O31 (io), 16 I/O32 (io), 17 I/O33 (io), 18 I/O34 (io), 20 I/O35 (io), 21 I/O36 (io), 22 I/O37 (io), 23 I/O38 (io), 24 I/O39 (io), 30 I/O40 (io), 31 I/O41 (io), 32 I/O42 (io), 33 I/O43 (io), 34 I/O44 (io), 35 I/O45 (io), 36 I/O46 (io), 37 I/O47 (io), 38 I/O48 (io), 39 I/O49 (io), 41 I/O50 (io), 42 I/O51 (io), 43 I/O52 (io), 44 I/O53 (io), 45 I/O54 (io), 47 I/O55 (io), 48 I/O56 (io), 49 I/O57 (io), 50 I/O58 (io), 51 I/O59 (io), 54 I/O60 (io), 55 I/O61 (io), 56 I/O62 (io), 57 I/O63 (io), 58 I/O64 (io), 60 I/O65 (io), 61 I/O66 (io), 62 I/O67 (io), 63 I/O68 (io), 64 I/O69 (io), 66 I/O70 (io), 67 I/O71 (io), 68 I/O72 (io), 69 I/O73 (io), 70 I/O74 (io), 72 I/O75 (io), 73 I/O76 (io), 74 I/O77 (io), 75 I/O78 (io), 76 I/O79 (io), 81 I/O80 (io), 82 I/O81 (io), 83 I/O82 (io), 84 I/O83 (io), 85 I/O84 (io), 86 I/O85 (io), 87 I/O86 (io), 88 I/O87 (io), 89 I/O88 (io), 90 I/O89 (io), 92 I/O90 (io), 93 I/O91 (io), 94 I/O92 (io), 95 I/O93 (io), 96 I/O94 (io), 99 I/O95 (io), 100 I/O96 (io), 101 I/O97 (io), 102 I/O98 (io), 103 I/O99 (io), 106 I/O100 (io), 107 I/O101 (io), 108 I/O102 (io), 109 I/O103 (io), 110 I/O104 (io), 111 I/O105 (io), 112 I/O106 (io), 113 I/O107 (io), 114 I/O108 (io), 115 I/O109 (io), 117 I/O110 (io), 118 I/O111 (io), 119 I/O112 (io), 120 I/O113 (io), 121 I/O114 (io), 123 I/O115 (io), 124 I/O116 (io), 125 I/O117 (io), 126 I/O118 (io), 127 I/O119 (io), 134 I/O120 (io), 135 I/O121 (io), 136 I/O122 (io), 137 I/O123 (io), 138 I/O124 (io), 139 I/O125 (io), 140 I/O126 (io), 141 I/O127 (io), 142 I/O128 (io), 143 I/O129 (io), 145 I/O130 (io), 146 I/O131 (io), 147 I/O132 (io), 148 I/O133 (io), 149 I/O134 (io), 151 I/O135 (io), 152 I/O136 (io), 153 I/O137 (io), 154 I/O138 (io), 155 I/O139 (io), 159 I/O140 (io), 160 I/O141 (io), 161 I/O142 (io), 162 I/O143 (io), 163 I/O144 (io), 164 I/O145 (io), 165 I/O146 (io), 166 I/O147 (io), 167 I/O148 (io), 168 I/O149 (io), 170 I/O150 (io), 171 I/O151 (io), 172 I/O152 (io), 173 I/O153 (io), 174 I/O154 (io), 176 I/O155 (io), 177 I/O156 (io), 178 I/O157 (io), 179 I/O158 (io), 180 I/O159 (io), 185 I/O0 (io), 186 I/O1 (io), 187 I/O2 (io), 188 I/O3 (io), 189 I/O4 (io), 190 I/O5 (io), 191 I/O6 (io), 192 I/O7 (io), 193 I/O8 (io), 194 I/O9 (io), 196 I/O10 (io), 197 I/O11 (io), 198 I/O12 (io), 199 I/O13 (io), 200 I/O14 (io), 202 I/O15 (io), 203 I/O16 (io), 204 I/O17 (io), 205 I/O18 (io), 206 I/O19 (io)
part B pins: 1 GND (power), 7 TCK (in), 13 GND (power), 19 NC, 25 CLK0/IN0 (in), 26 VCC0 (power), 27 GND (power), 28 NC, 29 CLK1/IN1 (in), 40 GND (power), 46 NC, 52 VCC0 (power), 53 GND (power), 59 TMS (in), 65 GND (power), 71 NC, 77 IN2 (in), 78 VCC0 (power), 79 GND (power), 80 VCC (power), 91 GND (power), 97 GND (power), 98 TDO (out), 104 VCC0 (power), 105 GND (power), 116 GND (power), 122 NC, 128 CLK2/IN3 (in), 129 GND (power), 130 VCC0 (power), 131 GND (power), 132 VCC (power), 133 CLK3/IN4 (in), 144 GND (power), 150 TDI (in), 156 VCC0 (power), 157 GND (power), 158 NC, 169 GND (power), 175 NC, 181 NC, 182 VCC (power), 183 GND (power), 184 VCC0 (power), 195 GND (power), 201 NC, 207 VCC0 (power), 208 VCC (power)

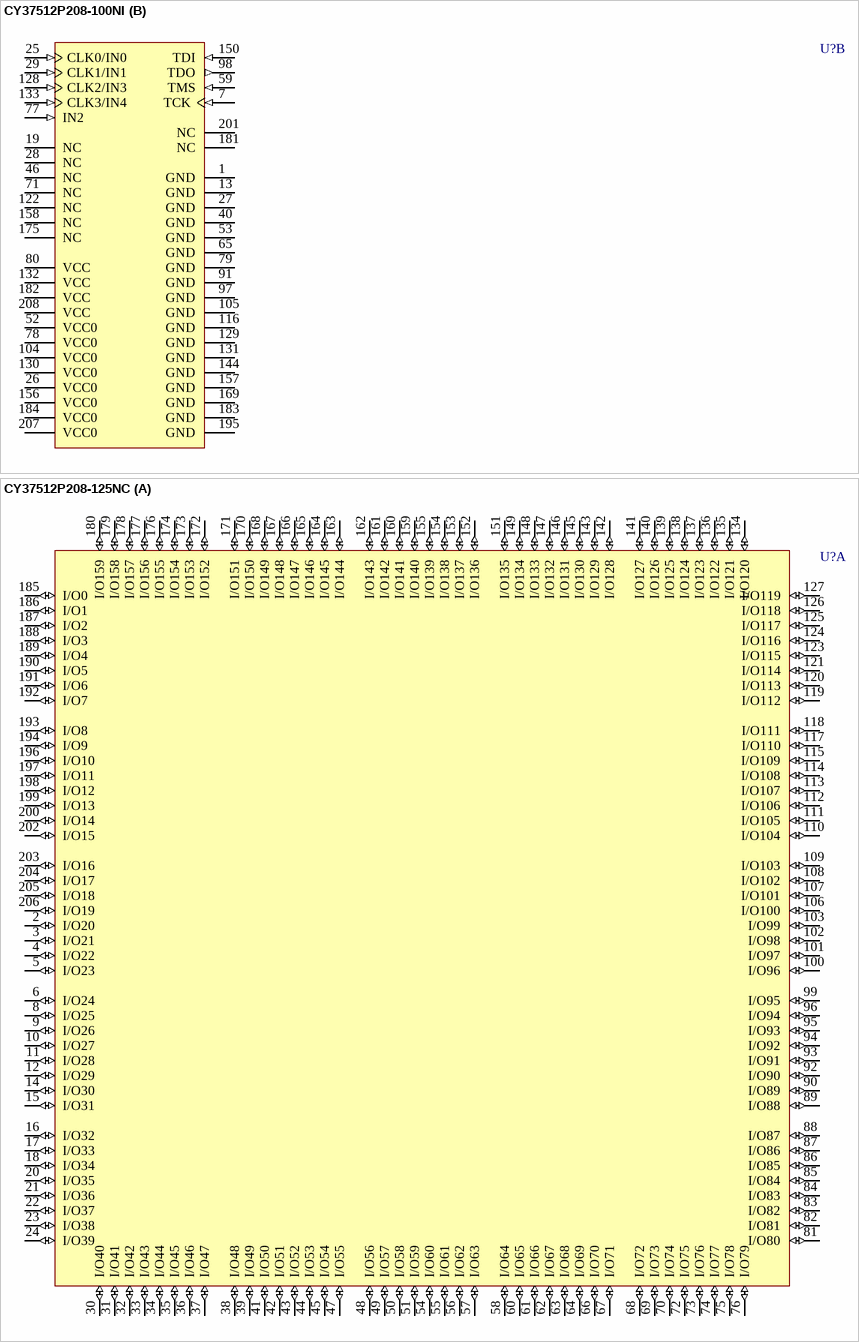
[diagram p58: symbols CY37512P208-100NI to CY37512P208-125NC]

## CY37512P208-100NI
designator U?
Ultra37000 5V, ISR High-Performance CPLD; Published: 11-Dec-2002; LatestRevisionDate: 13-Apr-2006; LatestRevisionNote: IPC-7351 Footprint Added.; DatasheetVersion: 18-Apr-2001; PackageVersion: revB, Jun-1997; PackageReference: N208; Publisher: Altium Limited; PackageDescription: 208-Pin Plastic Shrink Quad Flat Pack 0.5 mm Pitch; ComponentLink1Description: Manufacturer Link; ComponentLink1URL: http://www.cypress.com/; ComponentLink2Description: Datasheet; ComponentLink2URL: http://www.cypress.com/portal/server.pt/gateway/PTARGS_0_2_1524_209_259_43/http%3B/sjapp20.mis.cypress.com%3B7001/publishedcontent/publish/design_resources/datasheets/contents/cy37032p_5.pdf
footprint N208_N (Shrink QFP, 208-Leads, Body 28x28mm, Pitch 0.5mm, IPC Medium Density)
footprint N208_L (Shrink QFP, 208-Leads, Body 28x28mm, Pitch 0.5mm, IPC High Density)
footprint N208_M (Shrink QFP, 208-Leads, Body 28x28mm, Pitch 0.5mm, IPC Low Density)
3D model CY37512P208-N208 (208-Pin Plastic Shrink Quad Flat Pack 0.5 mm Pitch)
part A pins: 2 I/O20 (io), 3 I/O21 (io), 4 I/O22 (io), 5 I/O23 (io), 6 I/O24 (io), 8 I/O25 (io), 9 I/O26 (io), 10 I/O27 (io), 11 I/O28 (io), 12 I/O29 (io), 14 I/O30 (io), 15 I/O31 (io), 16 I/O32 (io), 17 I/O33 (io), 18 I/O34 (io), 20 I/O35 (io), 21 I/O36 (io), 22 I/O37 (io), 23 I/O38 (io), 24 I/O39 (io), 30 I/O40 (io), 31 I/O41 (io), 32 I/O42 (io), 33 I/O43 (io), 34 I/O44 (io), 35 I/O45 (io), 36 I/O46 (io), 37 I/O47 (io), 38 I/O48 (io), 39 I/O49 (io), 41 I/O50 (io), 42 I/O51 (io), 43 I/O52 (io), 44 I/O53 (io), 45 I/O54 (io), 47 I/O55 (io), 48 I/O56 (io), 49 I/O57 (io), 50 I/O58 (io), 51 I/O59 (io), 54 I/O60 (io), 55 I/O61 (io), 56 I/O62 (io), 57 I/O63 (io), 58 I/O64 (io), 60 I/O65 (io), 61 I/O66 (io), 62 I/O67 (io), 63 I/O68 (io), 64 I/O69 (io), 66 I/O70 (io), 67 I/O71 (io), 68 I/O72 (io), 69 I/O73 (io), 70 I/O74 (io), 72 I/O75 (io), 73 I/O76 (io), 74 I/O77 (io), 75 I/O78 (io), 76 I/O79 (io), 81 I/O80 (io), 82 I/O81 (io), 83 I/O82 (io), 84 I/O83 (io), 85 I/O84 (io), 86 I/O85 (io), 87 I/O86 (io), 88 I/O87 (io), 89 I/O88 (io), 90 I/O89 (io), 92 I/O90 (io), 93 I/O91 (io), 94 I/O92 (io), 95 I/O93 (io), 96 I/O94 (io), 99 I/O95 (io), 100 I/O96 (io), 101 I/O97 (io), 102 I/O98 (io), 103 I/O99 (io), 106 I/O100 (io), 107 I/O101 (io), 108 I/O102 (io), 109 I/O103 (io), 110 I/O104 (io), 111 I/O105 (io), 112 I/O106 (io), 113 I/O107 (io), 114 I/O108 (io), 115 I/O109 (io), 117 I/O110 (io), 118 I/O111 (io), 119 I/O112 (io), 120 I/O113 (io), 121 I/O114 (io), 123 I/O115 (io), 124 I/O116 (io), 125 I/O117 (io), 126 I/O118 (io), 127 I/O119 (io), 134 I/O120 (io), 135 I/O121 (io), 136 I/O122 (io), 137 I/O123 (io), 138 I/O124 (io), 139 I/O125 (io), 140 I/O126 (io), 141 I/O127 (io), 142 I/O128 (io), 143 I/O129 (io), 145 I/O130 (io), 146 I/O131 (io), 147 I/O132 (io), 148 I/O133 (io), 149 I/O134 (io), 151 I/O135 (io), 152 I/O136 (io), 153 I/O137 (io), 154 I/O138 (io), 155 I/O139 (io), 159 I/O140 (io), 160 I/O141 (io), 161 I/O142 (io), 162 I/O143 (io), 163 I/O144 (io), 164 I/O145 (io), 165 I/O146 (io), 166 I/O147 (io), 167 I/O148 (io), 168 I/O149 (io), 170 I/O150 (io), 171 I/O151 (io), 172 I/O152 (io), 173 I/O153 (io), 174 I/O154 (io), 176 I/O155 (io), 177 I/O156 (io), 178 I/O157 (io), 179 I/O158 (io), 180 I/O159 (io), 185 I/O0 (io), 186 I/O1 (io), 187 I/O2 (io), 188 I/O3 (io), 189 I/O4 (io), 190 I/O5 (io), 191 I/O6 (io), 192 I/O7 (io), 193 I/O8 (io), 194 I/O9 (io), 196 I/O10 (io), 197 I/O11 (io), 198 I/O12 (io), 199 I/O13 (io), 200 I/O14 (io), 202 I/O15 (io), 203 I/O16 (io), 204 I/O17 (io), 205 I/O18 (io), 206 I/O19 (io)
part B pins: 1 GND (power), 7 TCK (in), 13 GND (power), 19 NC, 25 CLK0/IN0 (in), 26 VCC0 (power), 27 GND (power), 28 NC, 29 CLK1/IN1 (in), 40 GND (power), 46 NC, 52 VCC0 (power), 53 GND (power), 59 TMS (in), 65 GND (power), 71 NC, 77 IN2 (in), 78 VCC0 (power), 79 GND (power), 80 VCC (power), 91 GND (power), 97 GND (power), 98 TDO (out), 104 VCC0 (power), 105 GND (power), 116 GND (power), 122 NC, 128 CLK2/IN3 (in), 129 GND (power), 130 VCC0 (power), 131 GND (power), 132 VCC (power), 133 CLK3/IN4 (in), 144 GND (power), 150 TDI (in), 156 VCC0 (power), 157 GND (power), 158 NC, 169 GND (power), 175 NC, 181 NC, 182 VCC (power), 183 GND (power), 184 VCC0 (power), 195 GND (power), 201 NC, 207 VCC0 (power), 208 VCC (power)

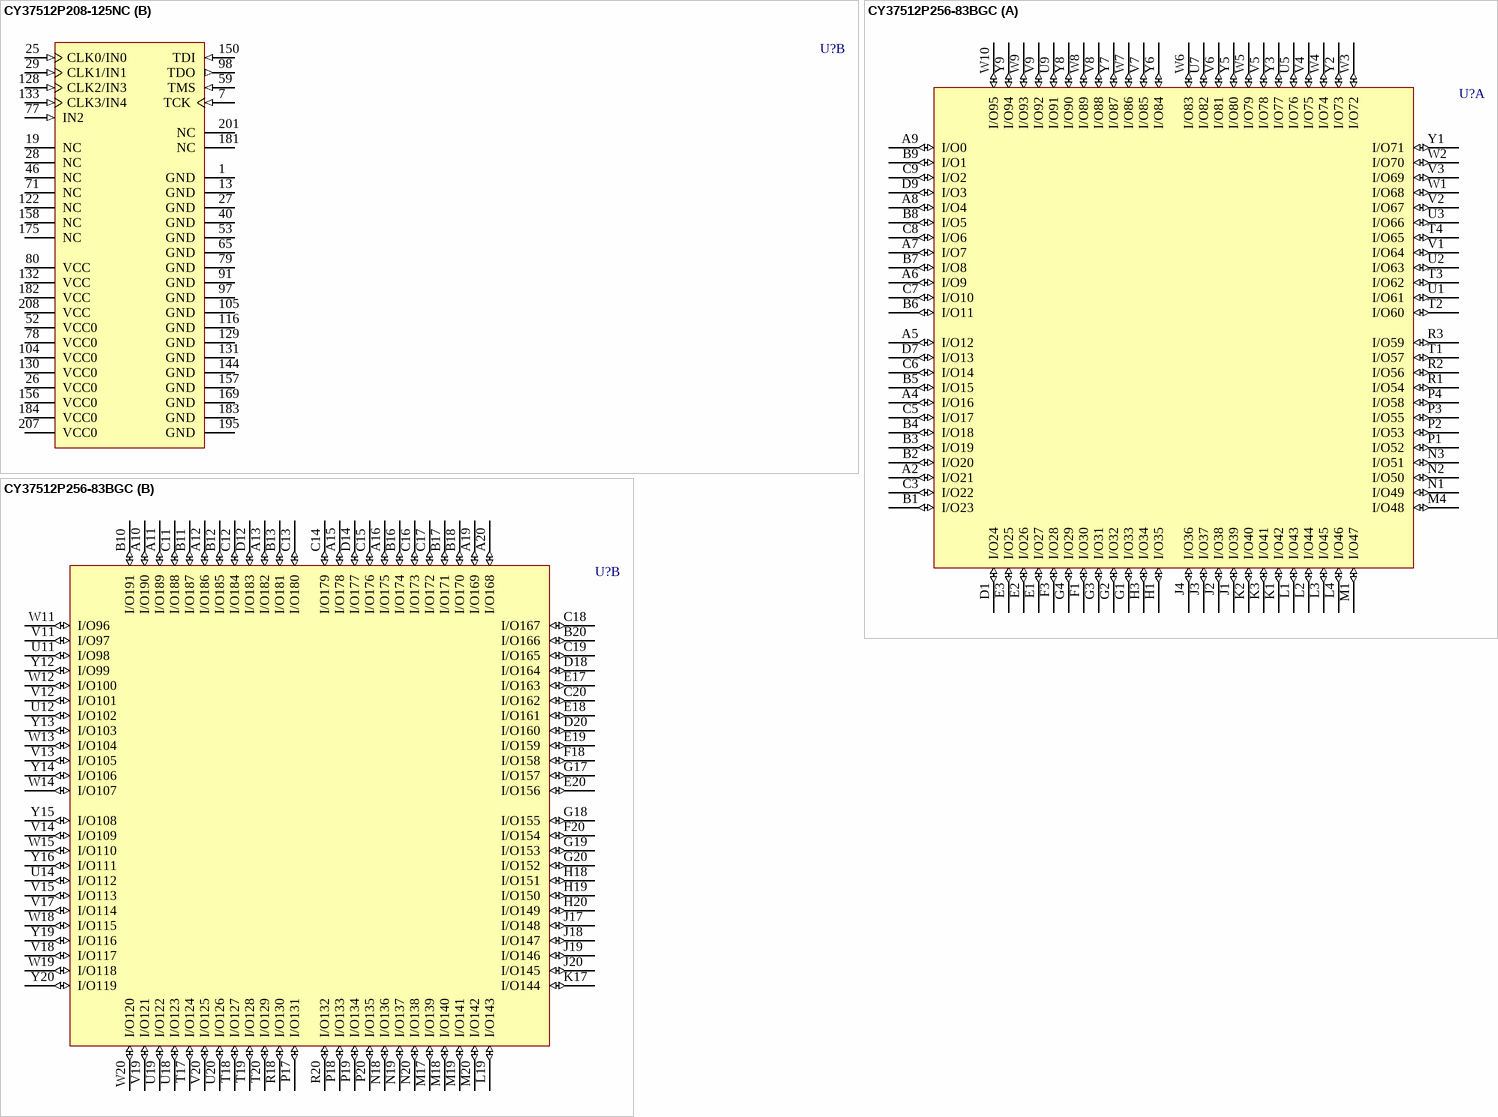
[diagram p59: symbols CY37512P208-125NC to CY37512P256-83BGC]

## CY37512P208-125NC
designator U?
Ultra37000 5V, ISR High-Performance CPLD; Published: 11-Dec-2002; LatestRevisionDate: 13-Apr-2006; LatestRevisionNote: IPC-7351 Footprint Added.; DatasheetVersion: 18-Apr-2001; PackageVersion: revB, Jun-1997; PackageReference: N208; Publisher: Altium Limited; PackageDescription: 208-Pin Plastic Shrink Quad Flat Pack 0.5 mm Pitch; ComponentLink1Description: Manufacturer Link; ComponentLink1URL: http://www.cypress.com/; ComponentLink2Description: Datasheet; ComponentLink2URL: http://www.cypress.com/portal/server.pt/gateway/PTARGS_0_2_1524_209_259_43/http%3B/sjapp20.mis.cypress.com%3B7001/publishedcontent/publish/design_resources/datasheets/contents/cy37032p_5.pdf
footprint N208_N (Shrink QFP, 208-Leads, Body 28x28mm, Pitch 0.5mm, IPC Medium Density)
footprint N208_L (Shrink QFP, 208-Leads, Body 28x28mm, Pitch 0.5mm, IPC High Density)
footprint N208_M (Shrink QFP, 208-Leads, Body 28x28mm, Pitch 0.5mm, IPC Low Density)
3D model CY37512P208-N208 (208-Pin Plastic Shrink Quad Flat Pack 0.5 mm Pitch)
part A pins: 2 I/O20 (io), 3 I/O21 (io), 4 I/O22 (io), 5 I/O23 (io), 6 I/O24 (io), 8 I/O25 (io), 9 I/O26 (io), 10 I/O27 (io), 11 I/O28 (io), 12 I/O29 (io), 14 I/O30 (io), 15 I/O31 (io), 16 I/O32 (io), 17 I/O33 (io), 18 I/O34 (io), 20 I/O35 (io), 21 I/O36 (io), 22 I/O37 (io), 23 I/O38 (io), 24 I/O39 (io), 30 I/O40 (io), 31 I/O41 (io), 32 I/O42 (io), 33 I/O43 (io), 34 I/O44 (io), 35 I/O45 (io), 36 I/O46 (io), 37 I/O47 (io), 38 I/O48 (io), 39 I/O49 (io), 41 I/O50 (io), 42 I/O51 (io), 43 I/O52 (io), 44 I/O53 (io), 45 I/O54 (io), 47 I/O55 (io), 48 I/O56 (io), 49 I/O57 (io), 50 I/O58 (io), 51 I/O59 (io), 54 I/O60 (io), 55 I/O61 (io), 56 I/O62 (io), 57 I/O63 (io), 58 I/O64 (io), 60 I/O65 (io), 61 I/O66 (io), 62 I/O67 (io), 63 I/O68 (io), 64 I/O69 (io), 66 I/O70 (io), 67 I/O71 (io), 68 I/O72 (io), 69 I/O73 (io), 70 I/O74 (io), 72 I/O75 (io), 73 I/O76 (io), 74 I/O77 (io), 75 I/O78 (io), 76 I/O79 (io), 81 I/O80 (io), 82 I/O81 (io), 83 I/O82 (io), 84 I/O83 (io), 85 I/O84 (io), 86 I/O85 (io), 87 I/O86 (io), 88 I/O87 (io), 89 I/O88 (io), 90 I/O89 (io), 92 I/O90 (io), 93 I/O91 (io), 94 I/O92 (io), 95 I/O93 (io), 96 I/O94 (io), 99 I/O95 (io), 100 I/O96 (io), 101 I/O97 (io), 102 I/O98 (io), 103 I/O99 (io), 106 I/O100 (io), 107 I/O101 (io), 108 I/O102 (io), 109 I/O103 (io), 110 I/O104 (io), 111 I/O105 (io), 112 I/O106 (io), 113 I/O107 (io), 114 I/O108 (io), 115 I/O109 (io), 117 I/O110 (io), 118 I/O111 (io), 119 I/O112 (io), 120 I/O113 (io), 121 I/O114 (io), 123 I/O115 (io), 124 I/O116 (io), 125 I/O117 (io), 126 I/O118 (io), 127 I/O119 (io), 134 I/O120 (io), 135 I/O121 (io), 136 I/O122 (io), 137 I/O123 (io), 138 I/O124 (io), 139 I/O125 (io), 140 I/O126 (io), 141 I/O127 (io), 142 I/O128 (io), 143 I/O129 (io), 145 I/O130 (io), 146 I/O131 (io), 147 I/O132 (io), 148 I/O133 (io), 149 I/O134 (io), 151 I/O135 (io), 152 I/O136 (io), 153 I/O137 (io), 154 I/O138 (io), 155 I/O139 (io), 159 I/O140 (io), 160 I/O141 (io), 161 I/O142 (io), 162 I/O143 (io), 163 I/O144 (io), 164 I/O145 (io), 165 I/O146 (io), 166 I/O147 (io), 167 I/O148 (io), 168 I/O149 (io), 170 I/O150 (io), 171 I/O151 (io), 172 I/O152 (io), 173 I/O153 (io), 174 I/O154 (io), 176 I/O155 (io), 177 I/O156 (io), 178 I/O157 (io), 179 I/O158 (io), 180 I/O159 (io), 185 I/O0 (io), 186 I/O1 (io), 187 I/O2 (io), 188 I/O3 (io), 189 I/O4 (io), 190 I/O5 (io), 191 I/O6 (io), 192 I/O7 (io), 193 I/O8 (io), 194 I/O9 (io), 196 I/O10 (io), 197 I/O11 (io), 198 I/O12 (io), 199 I/O13 (io), 200 I/O14 (io), 202 I/O15 (io), 203 I/O16 (io), 204 I/O17 (io), 205 I/O18 (io), 206 I/O19 (io)
part B pins: 1 GND (power), 7 TCK (in), 13 GND (power), 19 NC, 25 CLK0/IN0 (in), 26 VCC0 (power), 27 GND (power), 28 NC, 29 CLK1/IN1 (in), 40 GND (power), 46 NC, 52 VCC0 (power), 53 GND (power), 59 TMS (in), 65 GND (power), 71 NC, 77 IN2 (in), 78 VCC0 (power), 79 GND (power), 80 VCC (power), 91 GND (power), 97 GND (power), 98 TDO (out), 104 VCC0 (power), 105 GND (power), 116 GND (power), 122 NC, 128 CLK2/IN3 (in), 129 GND (power), 130 VCC0 (power), 131 GND (power), 132 VCC (power), 133 CLK3/IN4 (in), 144 GND (power), 150 TDI (in), 156 VCC0 (power), 157 GND (power), 158 NC, 169 GND (power), 175 NC, 181 NC, 182 VCC (power), 183 GND (power), 184 VCC0 (power), 195 GND (power), 201 NC, 207 VCC0 (power), 208 VCC (power)

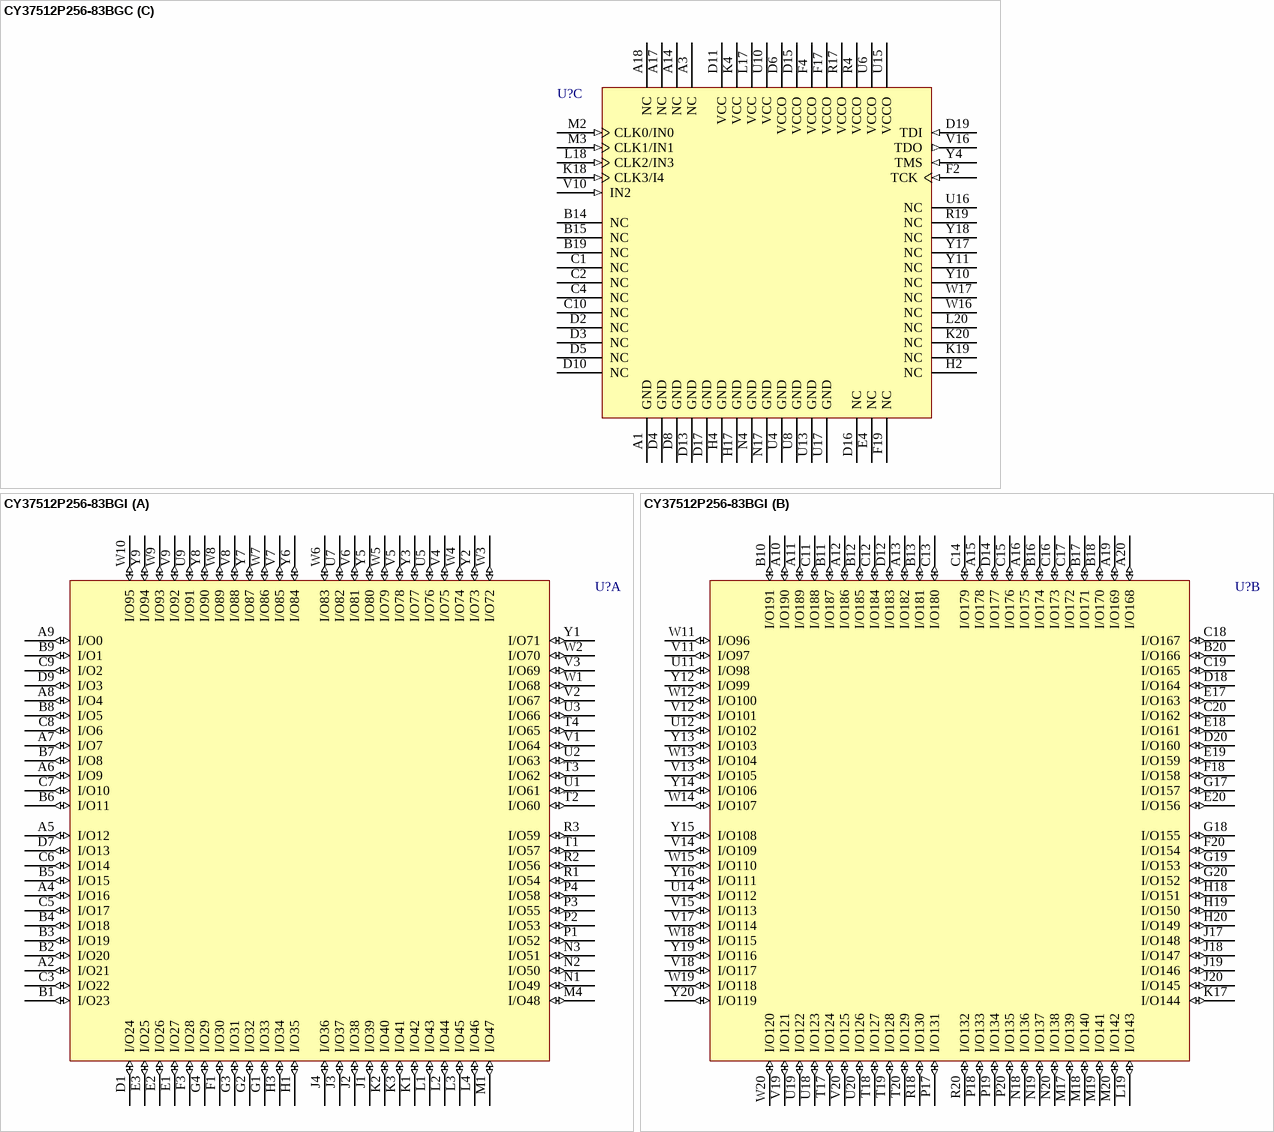
[diagram p60: symbols CY37512P256-83BGC to CY37512P256-83BGI]

## CY37512P256-83BGC
designator U?
Ultra37000 5V, ISR High-Performance CPLD; Published: 11-Dec-2002; LatestRevisionDate: 13-Apr-2006; LatestRevisionNote: IPC-7351 Footprint Added.; DatasheetVersion: 18-Apr-2001; PackageVersion: Mar-2001; PackageReference: BG256; Publisher: Altium Limited; PackageDescription: 292-Ball Ball Grid Array 1.27 mm Pitch; ComponentLink1Description: Manufacturer Link; ComponentLink1URL: http://www.cypress.com/; ComponentLink2Description: Datasheet; ComponentLink2URL: http://www.cypress.com/portal/server.pt/gateway/PTARGS_0_2_1524_209_259_43/http%3B/sjapp20.mis.cypress.com%3B7001/publishedcontent/publish/design_resources/datasheets/contents/cy37032p_5.pdf
footprint BG256 (BGA, 292-Leads, Body 27x27mm, Pitch 1.27mm)
3D model CY37512P256-BG256 (292-Ball Ball Grid Array 1.27 mm Pitch)
part A pins: A2 I/O21 (io), A4 I/O16 (io), A5 I/O12 (io), A6 I/O9 (io), A7 I/O7 (io), A8 I/O4 (io), A9 I/O0 (io), B1 I/O23 (io), B2 I/O20 (io), B3 I/O19 (io), B4 I/O18 (io), B5 I/O15 (io), B6 I/O11 (io), B7 I/O8 (io), B8 I/O5 (io), B9 I/O1 (io), C3 I/O22 (io), C5 I/O17 (io), C6 I/O14 (io), C7 I/O10 (io), C8 I/O6 (io), C9 I/O2 (io), D1 I/O24 (io), D7 I/O13 (io), D9 I/O3 (io), E1 I/O27 (io), E2 I/O26 (io), E3 I/O25 (io), F1 I/O30 (io), F3 I/O28 (io), G1 I/O33 (io), G2 I/O32 (io), G3 I/O31 (io), G4 I/O29 (io), H1 I/O35 (io), H3 I/O34 (io), J1 I/O39 (io), J2 I/O38 (io), J3 I/O37 (io), J4 I/O36 (io), K1 I/O42 (io), K2 I/O40 (io), K3 I/O41 (io), L1 I/O43 (io), L2 I/O44 (io), L3 I/O45 (io), L4 I/O46 (io), M1 I/O47 (io), M4 I/O48 (io), N1 I/O49 (io), N2 I/O50 (io), N3 I/O51 (io), P1 I/O52 (io), P2 I/O53 (io), P3 I/O55 (io), P4 I/O58 (io), R1 I/O54 (io), R2 I/O56 (io), R3 I/O59 (io), T1 I/O57 (io), T2 I/O60 (io), T3 I/O62 (io), T4 I/O65 (io), U1 I/O61 (io), U2 I/O63 (io), U3 I/O66 (io), U5 I/O76 (io), U7 I/O82 (io), U9 I/O91 (io), V1 I/O64 (io), V2 I/O67 (io), V3 I/O69 (io), V4 I/O75 (io), V5 I/O78 (io), V6 I/O81 (io), V7 I/O85 (io), V8 I/O88 (io), V9 I/O92 (io), W1 I/O68 (io), W2 I/O70 (io), W3 I/O72 (io), W4 I/O74 (io), W5 I/O79 (io), W6 I/O83 (io), W7 I/O86 (io), W8 I/O89 (io), W9 I/O93 (io), W10 I/O95 (io), Y1 I/O71 (io), Y2 I/O73 (io), Y3 I/O77 (io), Y5 I/O80 (io), Y6 I/O84 (io), Y7 I/O87 (io), Y8 I/O90 (io), Y9 I/O94 (io)
part B pins: A10 I/O190 (io), A11 I/O189 (io), A12 I/O186 (io), A13 I/O182 (io), A15 I/O178 (io), A16 I/O175 (io), A19 I/O169 (io), A20 I/O168 (io), B10 I/O191 (io), B11 I/O187 (io), B12 I/O185 (io), B13 I/O181 (io), B16 I/O174 (io), B17 I/O171 (io), B18 I/O170 (io), B20 I/O166 (io), C11 I/O188 (io), C12 I/O184 (io), C13 I/O180 (io), C14 I/O179 (io), C15 I/O176 (io), C16 I/O173 (io), C17 I/O172 (io), C18 I/O167 (io), C19 I/O165 (io), C20 I/O162 (io), D12 I/O183 (io), D14 I/O177 (io), D18 I/O164 (io), D20 I/O160 (io), E17 I/O163 (io), E18 I/O161 (io), E19 I/O159 (io), E20 I/O156 (io), F18 I/O158 (io), F20 I/O154 (io), G17 I/O157 (io), G18 I/O155 (io), G19 I/O153 (io), G20 I/O152 (io), H18 I/O151 (io), H19 I/O150 (io), H20 I/O149 (io), J17 I/O148 (io), J18 I/O147 (io), J19 I/O146 (io), J20 I/O145 (io), K17 I/O144 (io), L19 I/O143 (io), M17 I/O139 (io), M18 I/O140 (io), M19 I/O141 (io), M20 I/O142 (io), N18 I/O136 (io), N19 I/O137 (io), N20 I/O138 (io), P17 I/O131 (io), P18 I/O133 (io), P19 I/O134 (io), P20 I/O135 (io), R18 I/O130 (io), R20 I/O132 (io), T17 I/O124 (io), T18 I/O127 (io), T19 I/O128 (io), T20 I/O129 (io), U11 I/O98 (io), U12 I/O102 (io), U14 I/O112 (io), U18 I/O123 (io), U19 I/O122 (io), U20 I/O126 (io), V11 I/O97 (io), V12 I/O101 (io), V13 I/O105 (io), V14 I/O109 (io), V15 I/O113 (io), V17 I/O114 (io), V18 I/O117 (io), V19 I/O121 (io), V20 I/O125 (io), W11 I/O96 (io), W12 I/O100 (io), W13 I/O104 (io), W14 I/O107 (io), W15 I/O110 (io), W18 I/O115 (io), W19 I/O118 (io), W20 I/O120 (io), Y12 I/O99 (io), Y13 I/O103 (io), Y14 I/O106 (io), Y15 I/O108 (io), Y16 I/O111 (io), Y19 I/O116 (io), Y20 I/O119 (io)
part C pins: A1 GND (power), A3 NC, A14 NC, A17 NC, A18 NC, B14 NC, B15 NC, B19 NC, C1 NC, C2 NC, C4 NC, C10 NC, D2 NC, D3 NC, D4 GND (power), D5 NC, D6 VCCO (power), D8 GND (power), D10 NC, D11 VCC (power), D13 GND (power), D15 VCCO (power), D16 NC, D17 GND (power), D19 TDI (in), E4 NC, F2 TCK (in), F4 VCCO (power), F17 VCCO (power), F19 NC, H2 NC, H4 GND (power), H17 GND (power), K4 VCC (power), K18 CLK3/I4 (in), K19 NC, K20 NC, L17 VCC (power), L18 CLK2/IN3 (in), L20 NC, M2 CLK0/IN0 (in), M3 CLK1/IN1 (in), N4 GND (power), N17 GND (power), R4 VCCO (power), R17 VCCO (power), R19 NC, U4 GND (power), U6 VCCO (power), U8 GND (power), U10 VCC (power), U13 GND (power), U15 VCCO (power), U16 NC, U17 GND (power), V10 IN2 (in), V16 TDO (out), W16 NC, W17 NC, Y4 TMS (in), Y10 NC, Y11 NC, Y17 NC, Y18 NC

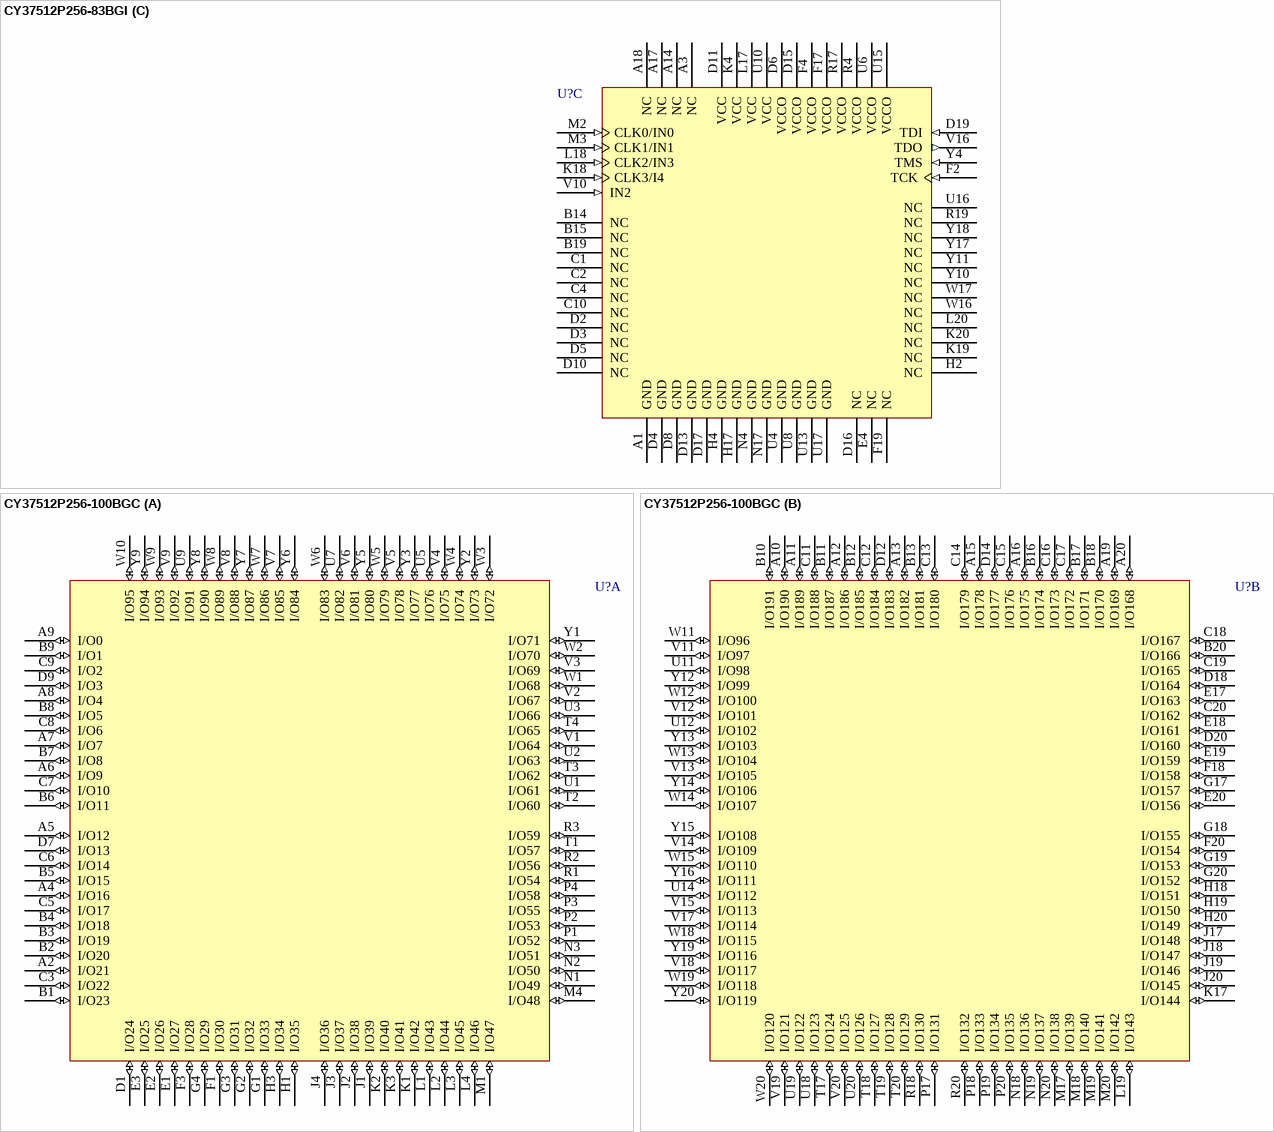
[diagram p61: symbols CY37512P256-83BGI to CY37512P256-100BGC]